# Altium integrated library NXP_60_26022015.IntLib: 1306 symbols (part 14 of 28)
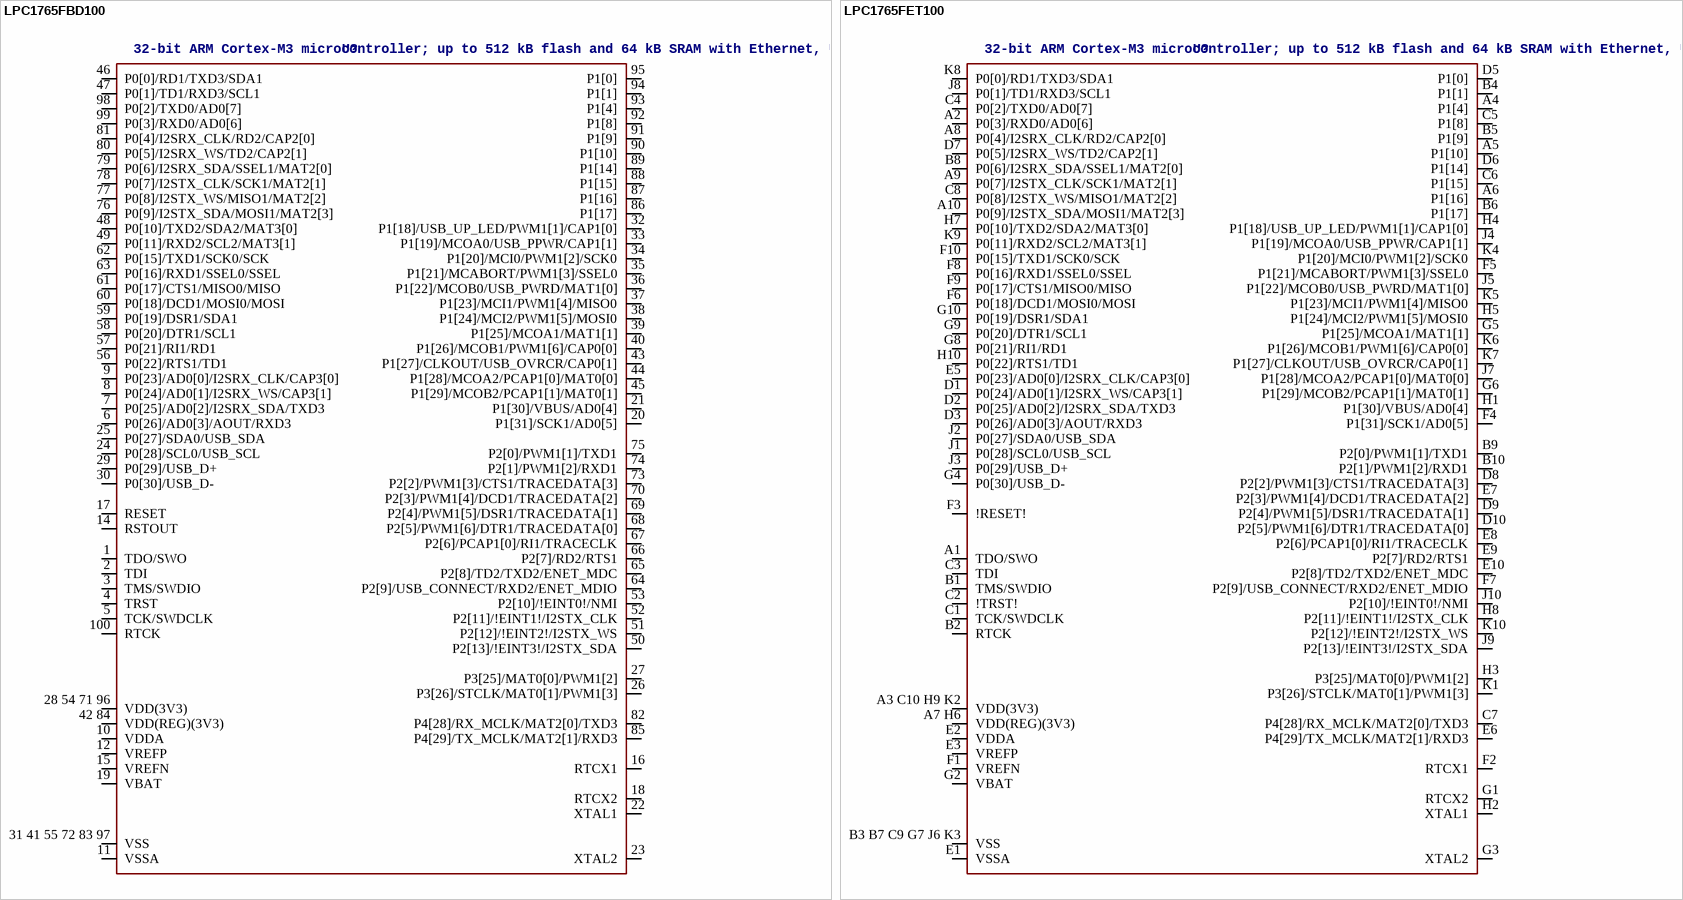
[diagram p198: symbols LPC1765FBD100 to LPC1765FET100]

## LPC1765FBD100
designator U?, comment 32-bit ARM Cortex-M3 microcontroller; up to 512 kB flash and 64 kB SRAM with Ethernet, USB 2.0 Host/Device/OTG, CAN The LPC1769/68/67/66/65/64/63 are ARM Cortex-M3 based microcontrollers for embedded applications featuring a high level of integration and low power consumption. The ARM Cortex-M3 is a next generation core that offers system enhancements such as enhanced debug features and a higher level of support block integration. The LPC1768/67/66/65/64/63 operate at CPU frequencies of up to 100 MHz. The LPC1769 operates at CPU frequencies of up to 120 MHz. The ARM Cortex-M3 CPU incorporates a 3-stage pipeline and uses a Harvard architecture with separate local instruction and data buses as well as a third bus for peripherals. The ARM Cortex-M3 CPU also includes an internal prefetch unit that supports speculative branching. The peripheral complement of the LPC1769/68/67/66/65/64/63 includes up to 512 kB of flash memory, up to 64 kB of data memory, Ethernet MAC, USB Device/Host/OTG interface, 8-channel general purpose DMA controller, 4 UARTs, 2 CAN channels, 2 SSP controllers, SPI interface, 3 I 2 C-bus interfaces, 2-input plus 2-output I 2 S-bus interface, 8-channel 12-bit ADC, 10-bit DAC, motor control PWM, Quadrature Encoder interface, four general purpose timers, 6-output general purpose PWM, ultra-low power Real-Time Clock (RTC) with separate battery supply, and up to 70 general purpose I/O pins. The LPC1769/68/67/66/65/64/63 are pin-compatible to the 100-pin LPC236x ARM7-based microcontroller series.   AAL Eindhoven MK/MVl
CAN: yes; ETH: no; FLASH: 256kB; MHZ: 100; SRAM: 32kB; SRAM0: 16kB; USB: D/H/OTG; DAC: yes; I2S: yes; SRAM1: 16kB
footprint SOT407-1
pins: 1 TDO/SWO, 2 TDI, 3 TMS/SWDIO, 4 TRST, 5 TCK/SWDCLK, 6 P0[26]/AD0[3]/AOUT/RXD3, 7 P0[25]/AD0[2]/I2SRX_SDA/TXD3, 8 P0[24]/AD0[1]/I2SRX_WS/CAP3[1], 9 P0[23]/AD0[0]/I2SRX_CLK/CAP3[0], 10 VDDA, 11 VSSA, 12 VREFP, 14 RSTOUT, 15 VREFN, 16 RTCX1, 17 RESET, 18 RTCX2, 19 VBAT, 20 P1[31]/SCK1/AD0[5], 21 P1[30]/VBUS/AD0[4], 22 XTAL1, 23 XTAL2, 24 P0[28]/SCL0/USB_SCL, 25 P0[27]/SDA0/USB_SDA, 26 P3[26]/STCLK/MAT0[1]/PWM1[3], 27 P3[25]/MAT0[0]/PWM1[2], 28 54 71 96 VDD(3V3), 29 P0[29]/USB_D+, 30 P0[30]/USB_D-, 31 41 55 72 83 97 VSS, 32 P1[18]/USB_UP_LED/PWM1[1]/CAP1[0], 33 P1[19]/MCOA0/USB_PPWR/CAP1[1], 34 P1[20]/MCI0/PWM1[2]/SCK0, 35 P1[21]/MCABORT/PWM1[3]/SSEL0, 36 P1[22]/MCOB0/USB_PWRD/MAT1[0], 37 P1[23]/MCI1/PWM1[4]/MISO0, 38 P1[24]/MCI2/PWM1[5]/MOSI0, 39 P1[25]/MCOA1/MAT1[1], 40 P1[26]/MCOB1/PWM1[6]/CAP0[0], 42 84 VDD(REG)(3V3), 43 P1[27]/CLKOUT/USB_OVRCR/CAP0[1], 44 P1[28]/MCOA2/PCAP1[0]/MAT0[0], 45 P1[29]/MCOB2/PCAP1[1]/MAT0[1], 46 P0[0]/RD1/TXD3/SDA1, 47 P0[1]/TD1/RXD3/SCL1, 48 P0[10]/TXD2/SDA2/MAT3[0], 49 P0[11]/RXD2/SCL2/MAT3[1], 50 P2[13]/!EINT3!/I2STX_SDA, 51 P2[12]/!EINT2!/I2STX_WS, 52 P2[11]/!EINT1!/I2STX_CLK, 53 P2[10]/!EINT0!/NMI, 56 P0[22]/RTS1/TD1, 57 P0[21]/RI1/RD1, 58 P0[20]/DTR1/SCL1, 59 P0[19]/DSR1/SDA1, 60 P0[18]/DCD1/MOSI0/MOSI, 61 P0[17]/CTS1/MISO0/MISO, 62 P0[15]/TXD1/SCK0/SCK, 63 P0[16]/RXD1/SSEL0/SSEL, 64 P2[9]/USB_CONNECT/RXD2/ENET_MDIO, 65 P2[8]/TD2/TXD2/ENET_MDC, 66 P2[7]/RD2/RTS1, 67 P2[6]/PCAP1[0]/RI1/TRACECLK, 68 P2[5]/PWM1[6]/DTR1/TRACEDATA[0], 69 P2[4]/PWM1[5]/DSR1/TRACEDATA[1], 70 P2[3]/PWM1[4]/DCD1/TRACEDATA[2], 73 P2[2]/PWM1[3]/CTS1/TRACEDATA[3], 74 P2[1]/PWM1[2]/RXD1, 75 P2[0]/PWM1[1]/TXD1, 76 P0[9]/I2STX_SDA/MOSI1/MAT2[3], 77 P0[8]/I2STX_WS/MISO1/MAT2[2], 78 P0[7]/I2STX_CLK/SCK1/MAT2[1], 79 P0[6]/I2SRX_SDA/SSEL1/MAT2[0], 80 P0[5]/I2SRX_WS/TD2/CAP2[1], 81 P0[4]/I2SRX_CLK/RD2/CAP2[0], 82 P4[28]/RX_MCLK/MAT2[0]/TXD3, 85 P4[29]/TX_MCLK/MAT2[1]/RXD3, 86 P1[17], 87 P1[16], 88 P1[15], 89 P1[14], 90 P1[10], 91 P1[9], 92 P1[8], 93 P1[4], 94 P1[1], 95 P1[0], 98 P0[2]/TXD0/AD0[7], 99 P0[3]/RXD0/AD0[6], 100 RTCK

## LPC1765FET100
designator U?, comment 32-bit ARM Cortex-M3 microcontroller; up to 512 kB flash and 64 kB SRAM with Ethernet, USB 2.0 Host/Device/OTG, CAN The LPC1769/68/67/66/65/64/63 are ARM Cortex-M3 based microcontrollers for embedded applications featuring a high level of integration and low power consumption. The ARM Cortex-M3 is a next generation core that offers system enhancements such as enhanced debug features and a higher level of support block integration. The LPC1768/67/66/65/64/63 operate at CPU frequencies of up to 100 MHz. The LPC1769 operates at CPU frequencies of up to 120 MHz. The ARM Cortex-M3 CPU incorporates a 3-stage pipeline and uses a Harvard architecture with separate local instruction and data buses as well as a third bus for peripherals. The ARM Cortex-M3 CPU also includes an internal prefetch unit that supports speculative branching. The peripheral complement of the LPC1769/68/67/66/65/64/63 includes up to 512 kB of flash memory, up to 64 kB of data memory, Ethernet MAC, USB Device/Host/OTG interface, 8-channel general purpose DMA controller, 4 UARTs, 2 CAN channels, 2 SSP controllers, SPI interface, 3 I 2 C-bus interfaces, 2-input plus 2-output I 2 S-bus interface, 8-channel 12-bit ADC, 10-bit DAC, motor control PWM, Quadrature Encoder interface, four general purpose timers, 6-output general purpose PWM, ultra-low power Real-Time Clock (RTC) with separate battery supply, and up to 70 general purpose I/O pins. The LPC1769/68/67/66/65/64/63 are pin-compatible to the 100-pin LPC236x ARM7-based microcontroller series.   AAL Eindhoven MK/MVl
CAN: yes; ETH: no; FLASH: 256kB; MHZ: 100; SRAM: 32kB; SRAM0: 16kB; USB: D/H/OTG; DAC: yes; I2S: yes; SRAM1: 16kB
footprint SOT926-1
pins: A1 TDO/SWO, A2 P0[3]/RXD0/AD0[6], A3 C10 H9 K2 VDD(3V3), A4 P1[4], A5 P1[10], A6 P1[16], A7 H6 VDD(REG)(3V3), A8 P0[4]/I2SRX_CLK/RD2/CAP2[0], A9 P0[7]/I2STX_CLK/SCK1/MAT2[1], A10 P0[9]/I2STX_SDA/MOSI1/MAT2[3], B1 TMS/SWDIO, B2 RTCK, B3 B7 C9 G7 J6 K3 VSS, B4 P1[1], B5 P1[9], B6 P1[17], B8 P0[6]/I2SRX_SDA/SSEL1/MAT2[0], B9 P2[0]/PWM1[1]/TXD1, B10 P2[1]/PWM1[2]/RXD1, C1 TCK/SWDCLK, C2 !TRST!, C3 TDI, C4 P0[2]/TXD0/AD0[7], C5 P1[8], C6 P1[15], C7 P4[28]/RX_MCLK/MAT2[0]/TXD3, C8 P0[8]/I2STX_WS/MISO1/MAT2[2], D1 P0[24]/AD0[1]/I2SRX_WS/CAP3[1], D2 P0[25]/AD0[2]/I2SRX_SDA/TXD3, D3 P0[26]/AD0[3]/AOUT/RXD3, D5 P1[0], D6 P1[14], D7 P0[5]/I2SRX_WS/TD2/CAP2[1], D8 P2[2]/PWM1[3]/CTS1/TRACEDATA[3], D9 P2[4]/PWM1[5]/DSR1/TRACEDATA[1], D10 P2[5]/PWM1[6]/DTR1/TRACEDATA[0], E1 VSSA, E2 VDDA, E3 VREFP, E5 P0[23]/AD0[0]/I2SRX_CLK/CAP3[0], E6 P4[29]/TX_MCLK/MAT2[1]/RXD3, E7 P2[3]/PWM1[4]/DCD1/TRACEDATA[2], E8 P2[6]/PCAP1[0]/RI1/TRACECLK, E9 P2[7]/RD2/RTS1, E10 P2[8]/TD2/TXD2/ENET_MDC, F1 VREFN, F2 RTCX1, F3 !RESET!, F4 P1[31]/SCK1/AD0[5], F5 P1[21]/MCABORT/PWM1[3]/SSEL0, F6 P0[18]/DCD1/MOSI0/MOSI, F7 P2[9]/USB_CONNECT/RXD2/ENET_MDIO, F8 P0[16]/RXD1/SSEL0/SSEL, F9 P0[17]/CTS1/MISO0/MISO, F10 P0[15]/TXD1/SCK0/SCK, G1 RTCX2, G2 VBAT, G3 XTAL2, G4 P0[30]/USB_D-, G5 P1[25]/MCOA1/MAT1[1], G6 P1[29]/MCOB2/PCAP1[1]/MAT0[1], G8 P0[21]/RI1/RD1, G9 P0[20]/DTR1/SCL1, G10 P0[19]/DSR1/SDA1, H1 P1[30]/VBUS/AD0[4], H2 XTAL1, H3 P3[25]/MAT0[0]/PWM1[2], H4 P1[18]/USB_UP_LED/PWM1[1]/CAP1[0], H5 P1[24]/MCI2/PWM1[5]/MOSI0, H7 P0[10]/TXD2/SDA2/MAT3[0], H8 P2[11]/!EINT1!/I2STX_CLK, H10 P0[22]/RTS1/TD1, J1 P0[28]/SCL0/USB_SCL, J2 P0[27]/SDA0/USB_SDA, J3 P0[29]/USB_D+, J4 P1[19]/MCOA0/USB_PPWR/CAP1[1], J5 P1[22]/MCOB0/USB_PWRD/MAT1[0], J7 P1[28]/MCOA2/PCAP1[0]/MAT0[0], J8 P0[1]/TD1/RXD3/SCL1, J9 P2[13]/!EINT3!/I2STX_SDA, J10 P2[10]/!EINT0!/NMI, K1 P3[26]/STCLK/MAT0[1]/PWM1[3], K4 P1[20]/MCI0/PWM1[2]/SCK0, K5 P1[23]/MCI1/PWM1[4]/MISO0, K6 P1[26]/MCOB1/PWM1[6]/CAP0[0], K7 P1[27]/CLKOUT/USB_OVRCR/CAP0[1], K8 P0[0]/RD1/TXD3/SDA1, K9 P0[11]/RXD2/SCL2/MAT3[1], K10 P2[12]/!EINT2!/I2STX_WS

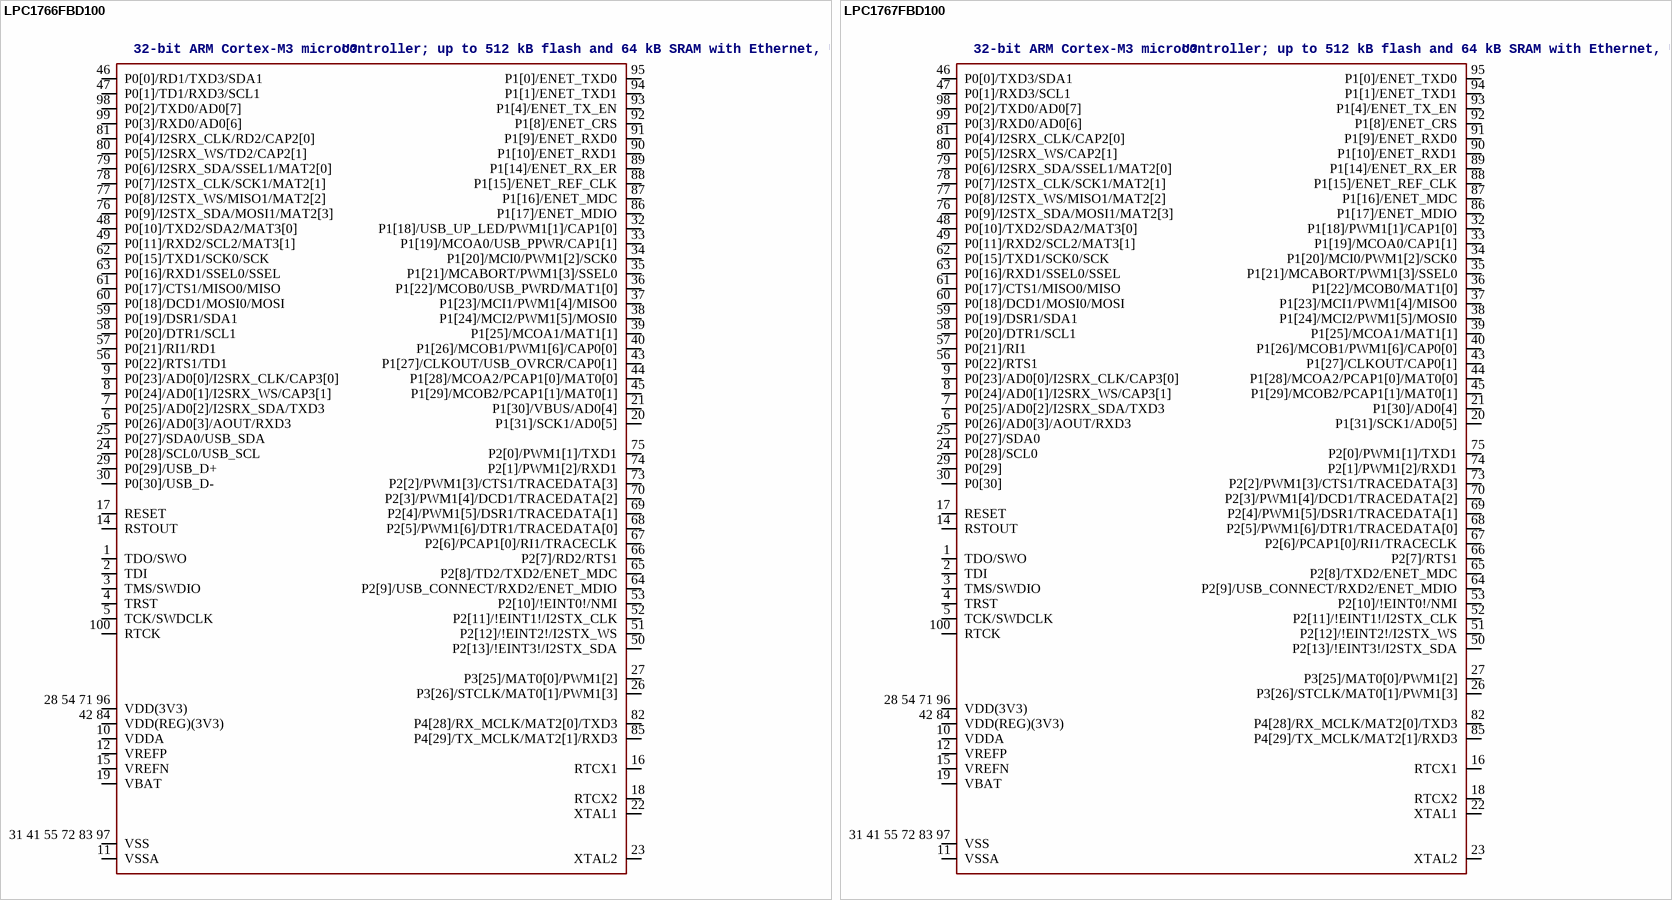
[diagram p83: symbols LPC1766FBD100 to LPC1767FBD100]

## LPC1766FBD100
designator U?, comment 32-bit ARM Cortex-M3 microcontroller; up to 512 kB flash and 64 kB SRAM with Ethernet, USB 2.0 Host/Device/OTG, CAN The LPC1769/68/67/66/65/64/63 are ARM Cortex-M3 based microcontrollers for embedded applications featuring a high level of integration and low power consumption. The ARM Cortex-M3 is a next generation core that offers system enhancements such as enhanced debug features and a higher level of support block integration. The LPC1768/67/66/65/64/63 operate at CPU frequencies of up to 100 MHz. The LPC1769 operates at CPU frequencies of up to 120 MHz. The ARM Cortex-M3 CPU incorporates a 3-stage pipeline and uses a Harvard architecture with separate local instruction and data buses as well as a third bus for peripherals. The ARM Cortex-M3 CPU also includes an internal prefetch unit that supports speculative branching. The peripheral complement of the LPC1769/68/67/66/65/64/63 includes up to 512 kB of flash memory, up to 64 kB of data memory, Ethernet MAC, USB Device/Host/OTG interface, 8-channel general purpose DMA controller, 4 UARTs, 2 CAN channels, 2 SSP controllers, SPI interface, 3 I 2 C-bus interfaces, 2-input plus 2-output I 2 S-bus interface, 8-channel 12-bit ADC, 10-bit DAC, motor control PWM, Quadrature Encoder interface, four general purpose timers, 6-output general purpose PWM, ultra-low power Real-Time Clock (RTC) with separate battery supply, and up to 70 general purpose I/O pins. The LPC1769/68/67/66/65/64/63 are pin-compatible to the 100-pin LPC236x ARM7-based microcontroller series.   AAL Eindhoven MK/MVl
CAN: yes; FLASH: 256kB; MHZ: 100; SRAM: 32kB; SRAM0: 16kB; USB: D/H/OTG; DAC: yes; ETH: yes; I2S: yes; SRAM1: 16kB
footprint SOT407-1
pins: 1 TDO/SWO, 2 TDI, 3 TMS/SWDIO, 4 TRST, 5 TCK/SWDCLK, 6 P0[26]/AD0[3]/AOUT/RXD3, 7 P0[25]/AD0[2]/I2SRX_SDA/TXD3, 8 P0[24]/AD0[1]/I2SRX_WS/CAP3[1], 9 P0[23]/AD0[0]/I2SRX_CLK/CAP3[0], 10 VDDA, 11 VSSA, 12 VREFP, 14 RSTOUT, 15 VREFN, 16 RTCX1, 17 RESET, 18 RTCX2, 19 VBAT, 20 P1[31]/SCK1/AD0[5], 21 P1[30]/VBUS/AD0[4], 22 XTAL1, 23 XTAL2, 24 P0[28]/SCL0/USB_SCL, 25 P0[27]/SDA0/USB_SDA, 26 P3[26]/STCLK/MAT0[1]/PWM1[3], 27 P3[25]/MAT0[0]/PWM1[2], 28 54 71 96 VDD(3V3), 29 P0[29]/USB_D+, 30 P0[30]/USB_D-, 31 41 55 72 83 97 VSS, 32 P1[18]/USB_UP_LED/PWM1[1]/CAP1[0], 33 P1[19]/MCOA0/USB_PPWR/CAP1[1], 34 P1[20]/MCI0/PWM1[2]/SCK0, 35 P1[21]/MCABORT/PWM1[3]/SSEL0, 36 P1[22]/MCOB0/USB_PWRD/MAT1[0], 37 P1[23]/MCI1/PWM1[4]/MISO0, 38 P1[24]/MCI2/PWM1[5]/MOSI0, 39 P1[25]/MCOA1/MAT1[1], 40 P1[26]/MCOB1/PWM1[6]/CAP0[0], 42 84 VDD(REG)(3V3), 43 P1[27]/CLKOUT/USB_OVRCR/CAP0[1], 44 P1[28]/MCOA2/PCAP1[0]/MAT0[0], 45 P1[29]/MCOB2/PCAP1[1]/MAT0[1], 46 P0[0]/RD1/TXD3/SDA1, 47 P0[1]/TD1/RXD3/SCL1, 48 P0[10]/TXD2/SDA2/MAT3[0], 49 P0[11]/RXD2/SCL2/MAT3[1], 50 P2[13]/!EINT3!/I2STX_SDA, 51 P2[12]/!EINT2!/I2STX_WS, 52 P2[11]/!EINT1!/I2STX_CLK, 53 P2[10]/!EINT0!/NMI, 56 P0[22]/RTS1/TD1, 57 P0[21]/RI1/RD1, 58 P0[20]/DTR1/SCL1, 59 P0[19]/DSR1/SDA1, 60 P0[18]/DCD1/MOSI0/MOSI, 61 P0[17]/CTS1/MISO0/MISO, 62 P0[15]/TXD1/SCK0/SCK, 63 P0[16]/RXD1/SSEL0/SSEL, 64 P2[9]/USB_CONNECT/RXD2/ENET_MDIO, 65 P2[8]/TD2/TXD2/ENET_MDC, 66 P2[7]/RD2/RTS1, 67 P2[6]/PCAP1[0]/RI1/TRACECLK, 68 P2[5]/PWM1[6]/DTR1/TRACEDATA[0], 69 P2[4]/PWM1[5]/DSR1/TRACEDATA[1], 70 P2[3]/PWM1[4]/DCD1/TRACEDATA[2], 73 P2[2]/PWM1[3]/CTS1/TRACEDATA[3], 74 P2[1]/PWM1[2]/RXD1, 75 P2[0]/PWM1[1]/TXD1, 76 P0[9]/I2STX_SDA/MOSI1/MAT2[3], 77 P0[8]/I2STX_WS/MISO1/MAT2[2], 78 P0[7]/I2STX_CLK/SCK1/MAT2[1], 79 P0[6]/I2SRX_SDA/SSEL1/MAT2[0], 80 P0[5]/I2SRX_WS/TD2/CAP2[1], 81 P0[4]/I2SRX_CLK/RD2/CAP2[0], 82 P4[28]/RX_MCLK/MAT2[0]/TXD3, 85 P4[29]/TX_MCLK/MAT2[1]/RXD3, 86 P1[17]/ENET_MDIO, 87 P1[16]/ENET_MDC, 88 P1[15]/ENET_REF_CLK, 89 P1[14]/ENET_RX_ER, 90 P1[10]/ENET_RXD1, 91 P1[9]/ENET_RXD0, 92 P1[8]/ENET_CRS, 93 P1[4]/ENET_TX_EN, 94 P1[1]/ENET_TXD1, 95 P1[0]/ENET_TXD0, 98 P0[2]/TXD0/AD0[7], 99 P0[3]/RXD0/AD0[6], 100 RTCK

## LPC1767FBD100
designator U?, comment 32-bit ARM Cortex-M3 microcontroller; up to 512 kB flash and 64 kB SRAM with Ethernet, USB 2.0 Host/Device/OTG, CAN The LPC1769/68/67/66/65/64/63 are ARM Cortex-M3 based microcontrollers for embedded applications featuring a high level of integration and low power consumption. The ARM Cortex-M3 is a next generation core that offers system enhancements such as enhanced debug features and a higher level of support block integration. The LPC1768/67/66/65/64/63 operate at CPU frequencies of up to 100 MHz. The LPC1769 operates at CPU frequencies of up to 120 MHz. The ARM Cortex-M3 CPU incorporates a 3-stage pipeline and uses a Harvard architecture with separate local instruction and data buses as well as a third bus for peripherals. The ARM Cortex-M3 CPU also includes an internal prefetch unit that supports speculative branching. The peripheral complement of the LPC1769/68/67/66/65/64/63 includes up to 512 kB of flash memory, up to 64 kB of data memory, Ethernet MAC, USB Device/Host/OTG interface, 8-channel general purpose DMA controller, 4 UARTs, 2 CAN channels, 2 SSP controllers, SPI interface, 3 I 2 C-bus interfaces, 2-input plus 2-output I 2 S-bus interface, 8-channel 12-bit ADC, 10-bit DAC, motor control PWM, Quadrature Encoder interface, four general purpose timers, 6-output general purpose PWM, ultra-low power Real-Time Clock (RTC) with separate battery supply, and up to 70 general purpose I/O pins. The LPC1769/68/67/66/65/64/63 are pin-compatible to the 100-pin LPC236x ARM7-based microcontroller series.   AAL Eindhoven MK/MVl
CAN: no; DAC: yes; FLASH: 512kB; MHZ: 100; SRAM: 32kB; SRAM0: 16kB; ETH: yes; I2S: yes; SRAM1: 16kB; USB: no
footprint SOT407-1
pins: 1 TDO/SWO, 2 TDI, 3 TMS/SWDIO, 4 TRST, 5 TCK/SWDCLK, 6 P0[26]/AD0[3]/AOUT/RXD3, 7 P0[25]/AD0[2]/I2SRX_SDA/TXD3, 8 P0[24]/AD0[1]/I2SRX_WS/CAP3[1], 9 P0[23]/AD0[0]/I2SRX_CLK/CAP3[0], 10 VDDA, 11 VSSA, 12 VREFP, 14 RSTOUT, 15 VREFN, 16 RTCX1, 17 RESET, 18 RTCX2, 19 VBAT, 20 P1[31]/SCK1/AD0[5], 21 P1[30]/AD0[4], 22 XTAL1, 23 XTAL2, 24 P0[28]/SCL0, 25 P0[27]/SDA0, 26 P3[26]/STCLK/MAT0[1]/PWM1[3], 27 P3[25]/MAT0[0]/PWM1[2], 28 54 71 96 VDD(3V3), 29 P0[29], 30 P0[30], 31 41 55 72 83 97 VSS, 32 P1[18]/PWM1[1]/CAP1[0], 33 P1[19]/MCOA0/CAP1[1], 34 P1[20]/MCI0/PWM1[2]/SCK0, 35 P1[21]/MCABORT/PWM1[3]/SSEL0, 36 P1[22]/MCOB0/MAT1[0], 37 P1[23]/MCI1/PWM1[4]/MISO0, 38 P1[24]/MCI2/PWM1[5]/MOSI0, 39 P1[25]/MCOA1/MAT1[1], 40 P1[26]/MCOB1/PWM1[6]/CAP0[0], 42 84 VDD(REG)(3V3), 43 P1[27]/CLKOUT/CAP0[1], 44 P1[28]/MCOA2/PCAP1[0]/MAT0[0], 45 P1[29]/MCOB2/PCAP1[1]/MAT0[1], 46 P0[0]/TXD3/SDA1, 47 P0[1]/RXD3/SCL1, 48 P0[10]/TXD2/SDA2/MAT3[0], 49 P0[11]/RXD2/SCL2/MAT3[1], 50 P2[13]/!EINT3!/I2STX_SDA, 51 P2[12]/!EINT2!/I2STX_WS, 52 P2[11]/!EINT1!/I2STX_CLK, 53 P2[10]/!EINT0!/NMI, 56 P0[22]/RTS1, 57 P0[21]/RI1, 58 P0[20]/DTR1/SCL1, 59 P0[19]/DSR1/SDA1, 60 P0[18]/DCD1/MOSI0/MOSI, 61 P0[17]/CTS1/MISO0/MISO, 62 P0[15]/TXD1/SCK0/SCK, 63 P0[16]/RXD1/SSEL0/SSEL, 64 P2[9]/USB_CONNECT/RXD2/ENET_MDIO, 65 P2[8]/TXD2/ENET_MDC, 66 P2[7]/RTS1, 67 P2[6]/PCAP1[0]/RI1/TRACECLK, 68 P2[5]/PWM1[6]/DTR1/TRACEDATA[0], 69 P2[4]/PWM1[5]/DSR1/TRACEDATA[1], 70 P2[3]/PWM1[4]/DCD1/TRACEDATA[2], 73 P2[2]/PWM1[3]/CTS1/TRACEDATA[3], 74 P2[1]/PWM1[2]/RXD1, 75 P2[0]/PWM1[1]/TXD1, 76 P0[9]/I2STX_SDA/MOSI1/MAT2[3], 77 P0[8]/I2STX_WS/MISO1/MAT2[2], 78 P0[7]/I2STX_CLK/SCK1/MAT2[1], 79 P0[6]/I2SRX_SDA/SSEL1/MAT2[0], 80 P0[5]/I2SRX_WS/CAP2[1], 81 P0[4]/I2SRX_CLK/CAP2[0], 82 P4[28]/RX_MCLK/MAT2[0]/TXD3, 85 P4[29]/TX_MCLK/MAT2[1]/RXD3, 86 P1[17]/ENET_MDIO, 87 P1[16]/ENET_MDC, 88 P1[15]/ENET_REF_CLK, 89 P1[14]/ENET_RX_ER, 90 P1[10]/ENET_RXD1, 91 P1[9]/ENET_RXD0, 92 P1[8]/ENET_CRS, 93 P1[4]/ENET_TX_EN, 94 P1[1]/ENET_TXD1, 95 P1[0]/ENET_TXD0, 98 P0[2]/TXD0/AD0[7], 99 P0[3]/RXD0/AD0[6], 100 RTCK

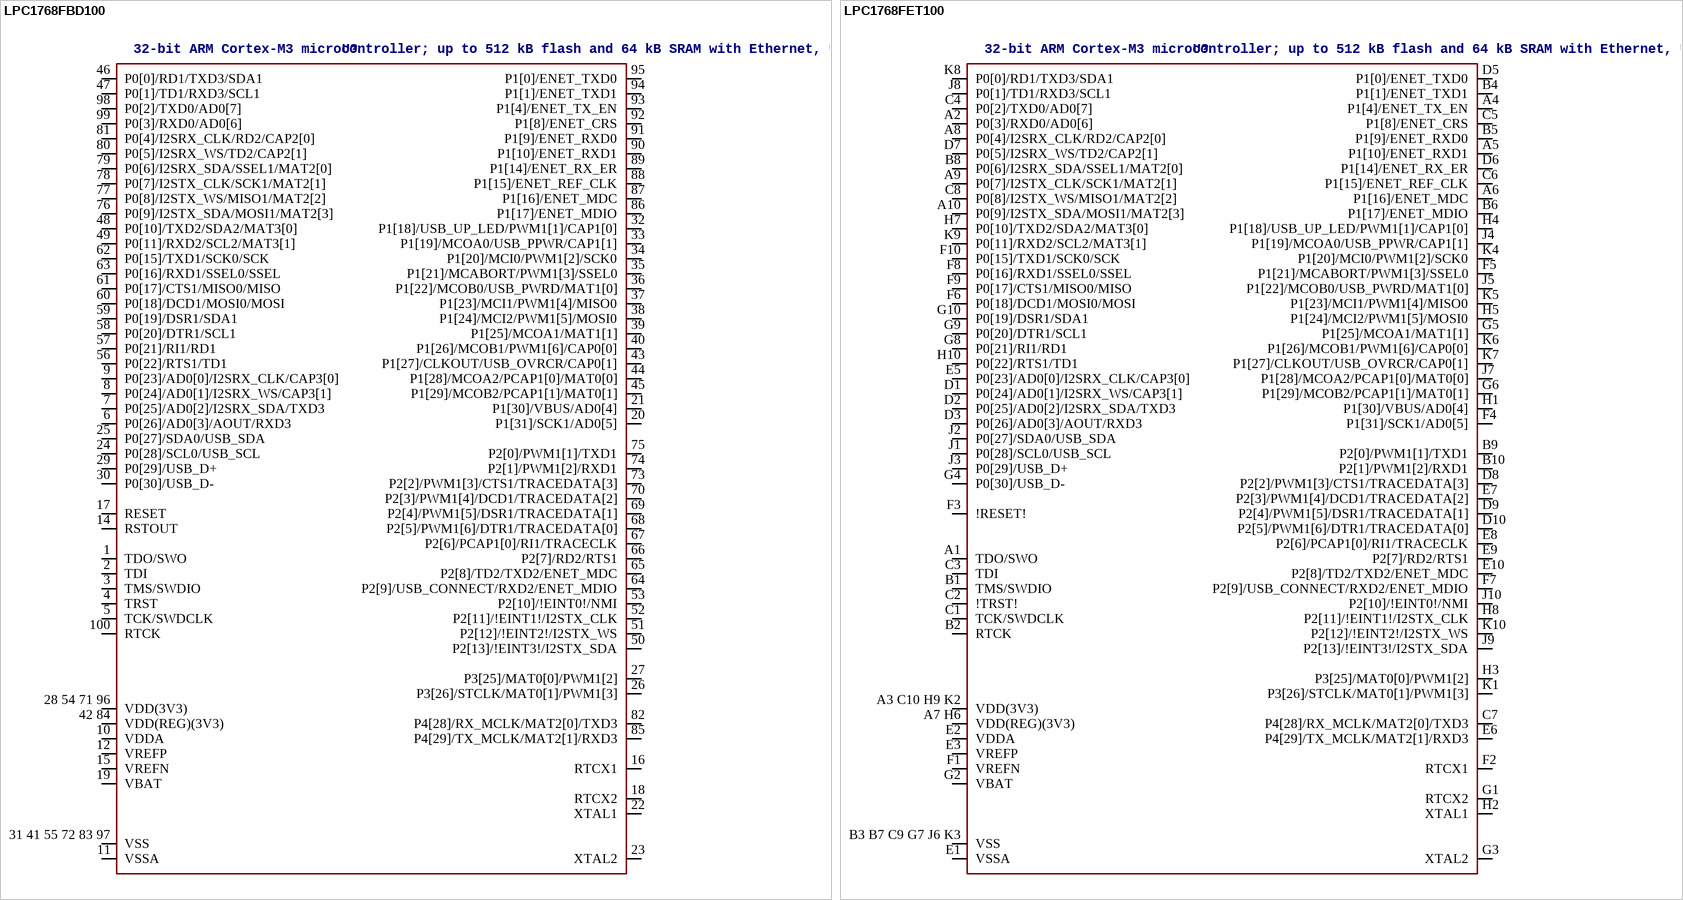
[diagram p84: symbols LPC1768FBD100 to LPC1768FET100]

## LPC1768FBD100
designator U?, comment 32-bit ARM Cortex-M3 microcontroller; up to 512 kB flash and 64 kB SRAM with Ethernet, USB 2.0 Host/Device/OTG, CAN The LPC1769/68/67/66/65/64/63 are ARM Cortex-M3 based microcontrollers for embedded applications featuring a high level of integration and low power consumption. The ARM Cortex-M3 is a next generation core that offers system enhancements such as enhanced debug features and a higher level of support block integration. The LPC1768/67/66/65/64/63 operate at CPU frequencies of up to 100 MHz. The LPC1769 operates at CPU frequencies of up to 120 MHz. The ARM Cortex-M3 CPU incorporates a 3-stage pipeline and uses a Harvard architecture with separate local instruction and data buses as well as a third bus for peripherals. The ARM Cortex-M3 CPU also includes an internal prefetch unit that supports speculative branching. The peripheral complement of the LPC1769/68/67/66/65/64/63 includes up to 512 kB of flash memory, up to 64 kB of data memory, Ethernet MAC, USB Device/Host/OTG interface, 8-channel general purpose DMA controller, 4 UARTs, 2 CAN channels, 2 SSP controllers, SPI interface, 3 I 2 C-bus interfaces, 2-input plus 2-output I 2 S-bus interface, 8-channel 12-bit ADC, 10-bit DAC, motor control PWM, Quadrature Encoder interface, four general purpose timers, 6-output general purpose PWM, ultra-low power Real-Time Clock (RTC) with separate battery supply, and up to 70 general purpose I/O pins. The LPC1769/68/67/66/65/64/63 are pin-compatible to the 100-pin LPC236x ARM7-based microcontroller series.   AAL Eindhoven MK/MVl
CAN: yes; FLASH: 512kB; MHZ: 100; SRAM: 32kB; SRAM0: 16kB; USB: D/H/OTG; DAC: yes; ETH: yes; I2S: yes; SRAM1: 16kB
footprint SOT407-1
pins: 1 TDO/SWO, 2 TDI, 3 TMS/SWDIO, 4 TRST, 5 TCK/SWDCLK, 6 P0[26]/AD0[3]/AOUT/RXD3, 7 P0[25]/AD0[2]/I2SRX_SDA/TXD3, 8 P0[24]/AD0[1]/I2SRX_WS/CAP3[1], 9 P0[23]/AD0[0]/I2SRX_CLK/CAP3[0], 10 VDDA, 11 VSSA, 12 VREFP, 14 RSTOUT, 15 VREFN, 16 RTCX1, 17 RESET, 18 RTCX2, 19 VBAT, 20 P1[31]/SCK1/AD0[5], 21 P1[30]/VBUS/AD0[4], 22 XTAL1, 23 XTAL2, 24 P0[28]/SCL0/USB_SCL, 25 P0[27]/SDA0/USB_SDA, 26 P3[26]/STCLK/MAT0[1]/PWM1[3], 27 P3[25]/MAT0[0]/PWM1[2], 28 54 71 96 VDD(3V3), 29 P0[29]/USB_D+, 30 P0[30]/USB_D-, 31 41 55 72 83 97 VSS, 32 P1[18]/USB_UP_LED/PWM1[1]/CAP1[0], 33 P1[19]/MCOA0/USB_PPWR/CAP1[1], 34 P1[20]/MCI0/PWM1[2]/SCK0, 35 P1[21]/MCABORT/PWM1[3]/SSEL0, 36 P1[22]/MCOB0/USB_PWRD/MAT1[0], 37 P1[23]/MCI1/PWM1[4]/MISO0, 38 P1[24]/MCI2/PWM1[5]/MOSI0, 39 P1[25]/MCOA1/MAT1[1], 40 P1[26]/MCOB1/PWM1[6]/CAP0[0], 42 84 VDD(REG)(3V3), 43 P1[27]/CLKOUT/USB_OVRCR/CAP0[1], 44 P1[28]/MCOA2/PCAP1[0]/MAT0[0], 45 P1[29]/MCOB2/PCAP1[1]/MAT0[1], 46 P0[0]/RD1/TXD3/SDA1, 47 P0[1]/TD1/RXD3/SCL1, 48 P0[10]/TXD2/SDA2/MAT3[0], 49 P0[11]/RXD2/SCL2/MAT3[1], 50 P2[13]/!EINT3!/I2STX_SDA, 51 P2[12]/!EINT2!/I2STX_WS, 52 P2[11]/!EINT1!/I2STX_CLK, 53 P2[10]/!EINT0!/NMI, 56 P0[22]/RTS1/TD1, 57 P0[21]/RI1/RD1, 58 P0[20]/DTR1/SCL1, 59 P0[19]/DSR1/SDA1, 60 P0[18]/DCD1/MOSI0/MOSI, 61 P0[17]/CTS1/MISO0/MISO, 62 P0[15]/TXD1/SCK0/SCK, 63 P0[16]/RXD1/SSEL0/SSEL, 64 P2[9]/USB_CONNECT/RXD2/ENET_MDIO, 65 P2[8]/TD2/TXD2/ENET_MDC, 66 P2[7]/RD2/RTS1, 67 P2[6]/PCAP1[0]/RI1/TRACECLK, 68 P2[5]/PWM1[6]/DTR1/TRACEDATA[0], 69 P2[4]/PWM1[5]/DSR1/TRACEDATA[1], 70 P2[3]/PWM1[4]/DCD1/TRACEDATA[2], 73 P2[2]/PWM1[3]/CTS1/TRACEDATA[3], 74 P2[1]/PWM1[2]/RXD1, 75 P2[0]/PWM1[1]/TXD1, 76 P0[9]/I2STX_SDA/MOSI1/MAT2[3], 77 P0[8]/I2STX_WS/MISO1/MAT2[2], 78 P0[7]/I2STX_CLK/SCK1/MAT2[1], 79 P0[6]/I2SRX_SDA/SSEL1/MAT2[0], 80 P0[5]/I2SRX_WS/TD2/CAP2[1], 81 P0[4]/I2SRX_CLK/RD2/CAP2[0], 82 P4[28]/RX_MCLK/MAT2[0]/TXD3, 85 P4[29]/TX_MCLK/MAT2[1]/RXD3, 86 P1[17]/ENET_MDIO, 87 P1[16]/ENET_MDC, 88 P1[15]/ENET_REF_CLK, 89 P1[14]/ENET_RX_ER, 90 P1[10]/ENET_RXD1, 91 P1[9]/ENET_RXD0, 92 P1[8]/ENET_CRS, 93 P1[4]/ENET_TX_EN, 94 P1[1]/ENET_TXD1, 95 P1[0]/ENET_TXD0, 98 P0[2]/TXD0/AD0[7], 99 P0[3]/RXD0/AD0[6], 100 RTCK

## LPC1768FET100
designator U?, comment 32-bit ARM Cortex-M3 microcontroller; up to 512 kB flash and 64 kB SRAM with Ethernet, USB 2.0 Host/Device/OTG, CAN The LPC1769/68/67/66/65/64/63 are ARM Cortex-M3 based microcontrollers for embedded applications featuring a high level of integration and low power consumption. The ARM Cortex-M3 is a next generation core that offers system enhancements such as enhanced debug features and a higher level of support block integration. The LPC1768/67/66/65/64/63 operate at CPU frequencies of up to 100 MHz. The LPC1769 operates at CPU frequencies of up to 120 MHz. The ARM Cortex-M3 CPU incorporates a 3-stage pipeline and uses a Harvard architecture with separate local instruction and data buses as well as a third bus for peripherals. The ARM Cortex-M3 CPU also includes an internal prefetch unit that supports speculative branching. The peripheral complement of the LPC1769/68/67/66/65/64/63 includes up to 512 kB of flash memory, up to 64 kB of data memory, Ethernet MAC, USB Device/Host/OTG interface, 8-channel general purpose DMA controller, 4 UARTs, 2 CAN channels, 2 SSP controllers, SPI interface, 3 I 2 C-bus interfaces, 2-input plus 2-output I 2 S-bus interface, 8-channel 12-bit ADC, 10-bit DAC, motor control PWM, Quadrature Encoder interface, four general purpose timers, 6-output general purpose PWM, ultra-low power Real-Time Clock (RTC) with separate battery supply, and up to 70 general purpose I/O pins. The LPC1769/68/67/66/65/64/63 are pin-compatible to the 100-pin LPC236x ARM7-based microcontroller series.   AAL Eindhoven MK/MVl
CAN: yes; FLASH: 512kB; MHZ: 100; SRAM: 32kB; SRAM0: 16kB; USB: D/H/OTG; DAC: yes; ETH: yes; I2S: yes; SRAM1: 16kB
footprint SOT926-1
pins: A1 TDO/SWO, A2 P0[3]/RXD0/AD0[6], A3 C10 H9 K2 VDD(3V3), A4 P1[4]/ENET_TX_EN, A5 P1[10]/ENET_RXD1, A6 P1[16]/ENET_MDC, A7 H6 VDD(REG)(3V3), A8 P0[4]/I2SRX_CLK/RD2/CAP2[0], A9 P0[7]/I2STX_CLK/SCK1/MAT2[1], A10 P0[9]/I2STX_SDA/MOSI1/MAT2[3], B1 TMS/SWDIO, B2 RTCK, B3 B7 C9 G7 J6 K3 VSS, B4 P1[1]/ENET_TXD1, B5 P1[9]/ENET_RXD0, B6 P1[17]/ENET_MDIO, B8 P0[6]/I2SRX_SDA/SSEL1/MAT2[0], B9 P2[0]/PWM1[1]/TXD1, B10 P2[1]/PWM1[2]/RXD1, C1 TCK/SWDCLK, C2 !TRST!, C3 TDI, C4 P0[2]/TXD0/AD0[7], C5 P1[8]/ENET_CRS, C6 P1[15]/ENET_REF_CLK, C7 P4[28]/RX_MCLK/MAT2[0]/TXD3, C8 P0[8]/I2STX_WS/MISO1/MAT2[2], D1 P0[24]/AD0[1]/I2SRX_WS/CAP3[1], D2 P0[25]/AD0[2]/I2SRX_SDA/TXD3, D3 P0[26]/AD0[3]/AOUT/RXD3, D5 P1[0]/ENET_TXD0, D6 P1[14]/ENET_RX_ER, D7 P0[5]/I2SRX_WS/TD2/CAP2[1], D8 P2[2]/PWM1[3]/CTS1/TRACEDATA[3], D9 P2[4]/PWM1[5]/DSR1/TRACEDATA[1], D10 P2[5]/PWM1[6]/DTR1/TRACEDATA[0], E1 VSSA, E2 VDDA, E3 VREFP, E5 P0[23]/AD0[0]/I2SRX_CLK/CAP3[0], E6 P4[29]/TX_MCLK/MAT2[1]/RXD3, E7 P2[3]/PWM1[4]/DCD1/TRACEDATA[2], E8 P2[6]/PCAP1[0]/RI1/TRACECLK, E9 P2[7]/RD2/RTS1, E10 P2[8]/TD2/TXD2/ENET_MDC, F1 VREFN, F2 RTCX1, F3 !RESET!, F4 P1[31]/SCK1/AD0[5], F5 P1[21]/MCABORT/PWM1[3]/SSEL0, F6 P0[18]/DCD1/MOSI0/MOSI, F7 P2[9]/USB_CONNECT/RXD2/ENET_MDIO, F8 P0[16]/RXD1/SSEL0/SSEL, F9 P0[17]/CTS1/MISO0/MISO, F10 P0[15]/TXD1/SCK0/SCK, G1 RTCX2, G2 VBAT, G3 XTAL2, G4 P0[30]/USB_D-, G5 P1[25]/MCOA1/MAT1[1], G6 P1[29]/MCOB2/PCAP1[1]/MAT0[1], G8 P0[21]/RI1/RD1, G9 P0[20]/DTR1/SCL1, G10 P0[19]/DSR1/SDA1, H1 P1[30]/VBUS/AD0[4], H2 XTAL1, H3 P3[25]/MAT0[0]/PWM1[2], H4 P1[18]/USB_UP_LED/PWM1[1]/CAP1[0], H5 P1[24]/MCI2/PWM1[5]/MOSI0, H7 P0[10]/TXD2/SDA2/MAT3[0], H8 P2[11]/!EINT1!/I2STX_CLK, H10 P0[22]/RTS1/TD1, J1 P0[28]/SCL0/USB_SCL, J2 P0[27]/SDA0/USB_SDA, J3 P0[29]/USB_D+, J4 P1[19]/MCOA0/USB_PPWR/CAP1[1], J5 P1[22]/MCOB0/USB_PWRD/MAT1[0], J7 P1[28]/MCOA2/PCAP1[0]/MAT0[0], J8 P0[1]/TD1/RXD3/SCL1, J9 P2[13]/!EINT3!/I2STX_SDA, J10 P2[10]/!EINT0!/NMI, K1 P3[26]/STCLK/MAT0[1]/PWM1[3], K4 P1[20]/MCI0/PWM1[2]/SCK0, K5 P1[23]/MCI1/PWM1[4]/MISO0, K6 P1[26]/MCOB1/PWM1[6]/CAP0[0], K7 P1[27]/CLKOUT/USB_OVRCR/CAP0[1], K8 P0[0]/RD1/TXD3/SDA1, K9 P0[11]/RXD2/SCL2/MAT3[1], K10 P2[12]/!EINT2!/I2STX_WS

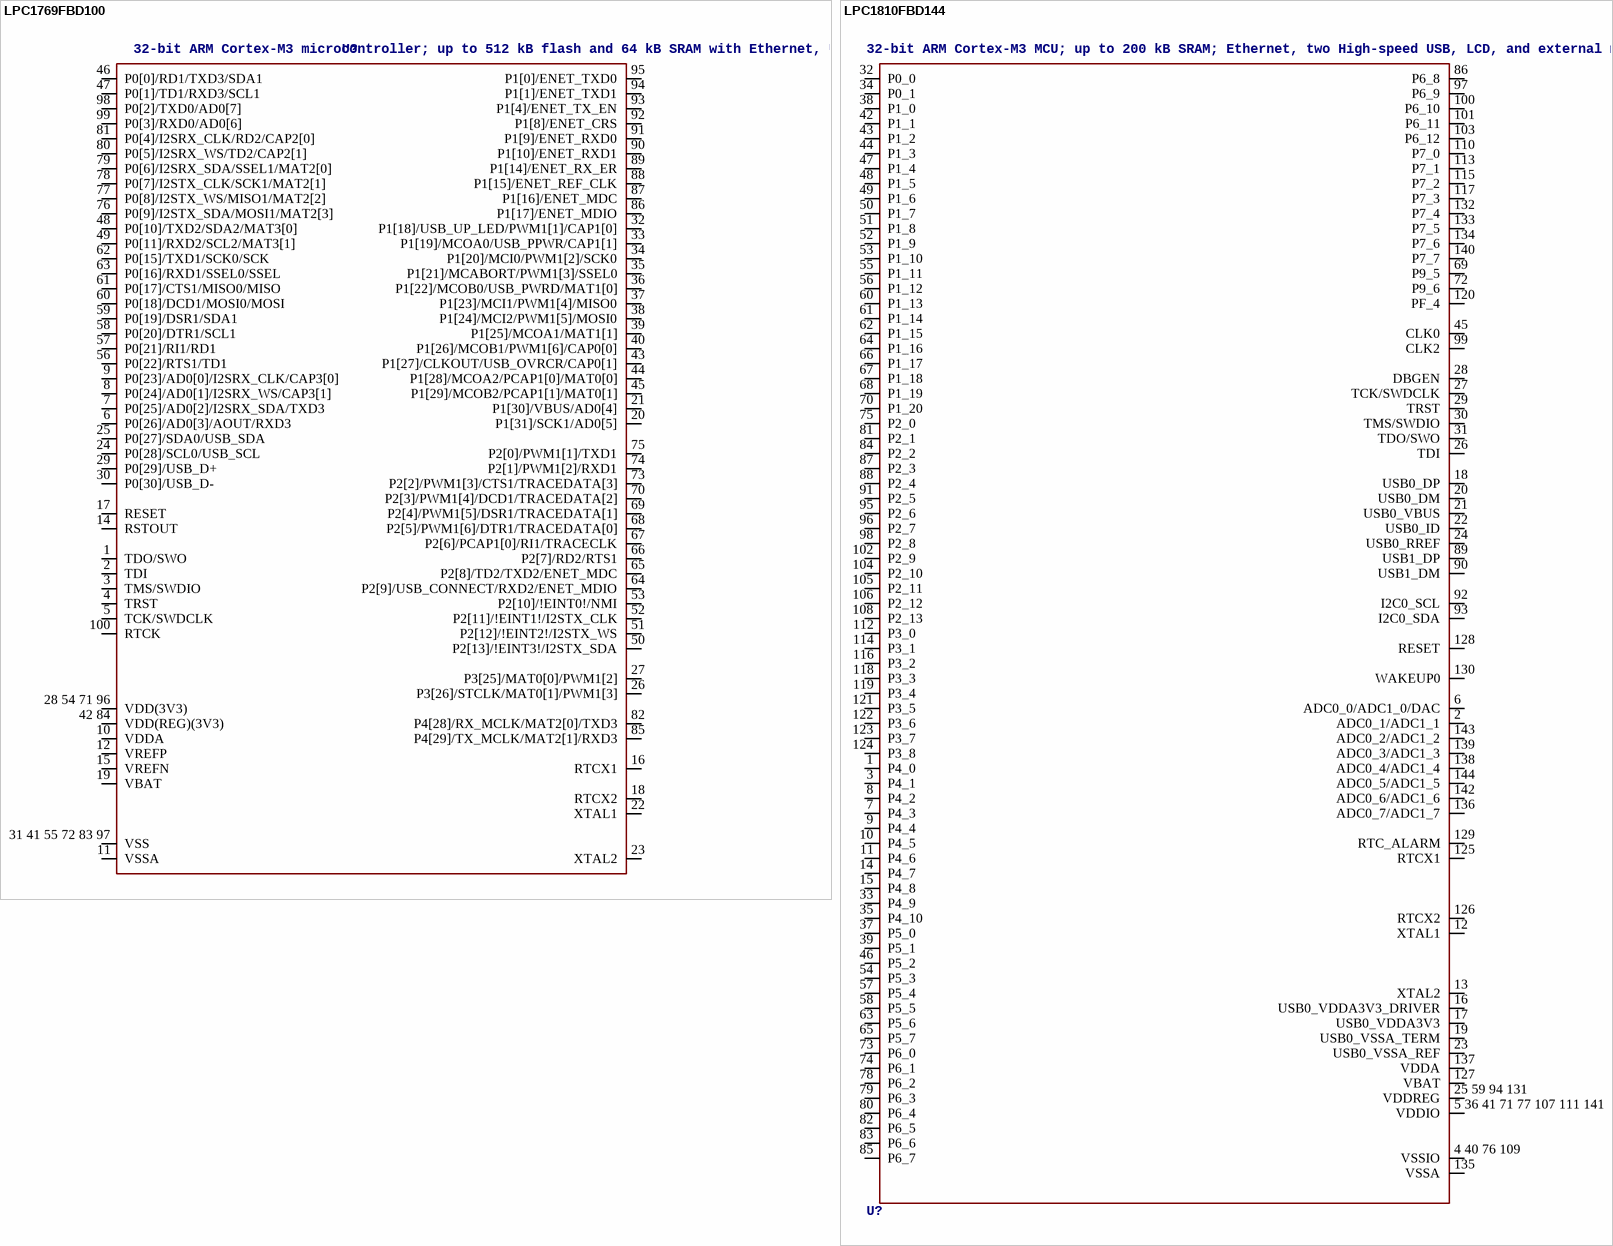
[diagram p85: symbols LPC1769FBD100 to LPC1810FBD144]

## LPC1769FBD100
designator U?, comment 32-bit ARM Cortex-M3 microcontroller; up to 512 kB flash and 64 kB SRAM with Ethernet, USB 2.0 Host/Device/OTG, CAN The LPC1769/68/67/66/65/64/63 are ARM Cortex-M3 based microcontrollers for embedded applications featuring a high level of integration and low power consumption. The ARM Cortex-M3 is a next generation core that offers system enhancements such as enhanced debug features and a higher level of support block integration. The LPC1768/67/66/65/64/63 operate at CPU frequencies of up to 100 MHz. The LPC1769 operates at CPU frequencies of up to 120 MHz. The ARM Cortex-M3 CPU incorporates a 3-stage pipeline and uses a Harvard architecture with separate local instruction and data buses as well as a third bus for peripherals. The ARM Cortex-M3 CPU also includes an internal prefetch unit that supports speculative branching. The peripheral complement of the LPC1769/68/67/66/65/64/63 includes up to 512 kB of flash memory, up to 64 kB of data memory, Ethernet MAC, USB Device/Host/OTG interface, 8-channel general purpose DMA controller, 4 UARTs, 2 CAN channels, 2 SSP controllers, SPI interface, 3 I 2 C-bus interfaces, 2-input plus 2-output I 2 S-bus interface, 8-channel 12-bit ADC, 10-bit DAC, motor control PWM, Quadrature Encoder interface, four general purpose timers, 6-output general purpose PWM, ultra-low power Real-Time Clock (RTC) with separate battery supply, and up to 70 general purpose I/O pins. The LPC1769/68/67/66/65/64/63 are pin-compatible to the 100-pin LPC236x ARM7-based microcontroller series.   AAL Eindhoven MK/MVl
CAN: yes; FLASH: 512kB; MHZ: 120; SRAM: 32kB; SRAM0: 16kB; USB: D/H/OTG; DAC: yes; ETH: yes; I2S: yes; SRAM1: 16kB
footprint SOT407-1
pins: 1 TDO/SWO, 2 TDI, 3 TMS/SWDIO, 4 TRST, 5 TCK/SWDCLK, 6 P0[26]/AD0[3]/AOUT/RXD3, 7 P0[25]/AD0[2]/I2SRX_SDA/TXD3, 8 P0[24]/AD0[1]/I2SRX_WS/CAP3[1], 9 P0[23]/AD0[0]/I2SRX_CLK/CAP3[0], 10 VDDA, 11 VSSA, 12 VREFP, 14 RSTOUT, 15 VREFN, 16 RTCX1, 17 RESET, 18 RTCX2, 19 VBAT, 20 P1[31]/SCK1/AD0[5], 21 P1[30]/VBUS/AD0[4], 22 XTAL1, 23 XTAL2, 24 P0[28]/SCL0/USB_SCL, 25 P0[27]/SDA0/USB_SDA, 26 P3[26]/STCLK/MAT0[1]/PWM1[3], 27 P3[25]/MAT0[0]/PWM1[2], 28 54 71 96 VDD(3V3), 29 P0[29]/USB_D+, 30 P0[30]/USB_D-, 31 41 55 72 83 97 VSS, 32 P1[18]/USB_UP_LED/PWM1[1]/CAP1[0], 33 P1[19]/MCOA0/USB_PPWR/CAP1[1], 34 P1[20]/MCI0/PWM1[2]/SCK0, 35 P1[21]/MCABORT/PWM1[3]/SSEL0, 36 P1[22]/MCOB0/USB_PWRD/MAT1[0], 37 P1[23]/MCI1/PWM1[4]/MISO0, 38 P1[24]/MCI2/PWM1[5]/MOSI0, 39 P1[25]/MCOA1/MAT1[1], 40 P1[26]/MCOB1/PWM1[6]/CAP0[0], 42 84 VDD(REG)(3V3), 43 P1[27]/CLKOUT/USB_OVRCR/CAP0[1], 44 P1[28]/MCOA2/PCAP1[0]/MAT0[0], 45 P1[29]/MCOB2/PCAP1[1]/MAT0[1], 46 P0[0]/RD1/TXD3/SDA1, 47 P0[1]/TD1/RXD3/SCL1, 48 P0[10]/TXD2/SDA2/MAT3[0], 49 P0[11]/RXD2/SCL2/MAT3[1], 50 P2[13]/!EINT3!/I2STX_SDA, 51 P2[12]/!EINT2!/I2STX_WS, 52 P2[11]/!EINT1!/I2STX_CLK, 53 P2[10]/!EINT0!/NMI, 56 P0[22]/RTS1/TD1, 57 P0[21]/RI1/RD1, 58 P0[20]/DTR1/SCL1, 59 P0[19]/DSR1/SDA1, 60 P0[18]/DCD1/MOSI0/MOSI, 61 P0[17]/CTS1/MISO0/MISO, 62 P0[15]/TXD1/SCK0/SCK, 63 P0[16]/RXD1/SSEL0/SSEL, 64 P2[9]/USB_CONNECT/RXD2/ENET_MDIO, 65 P2[8]/TD2/TXD2/ENET_MDC, 66 P2[7]/RD2/RTS1, 67 P2[6]/PCAP1[0]/RI1/TRACECLK, 68 P2[5]/PWM1[6]/DTR1/TRACEDATA[0], 69 P2[4]/PWM1[5]/DSR1/TRACEDATA[1], 70 P2[3]/PWM1[4]/DCD1/TRACEDATA[2], 73 P2[2]/PWM1[3]/CTS1/TRACEDATA[3], 74 P2[1]/PWM1[2]/RXD1, 75 P2[0]/PWM1[1]/TXD1, 76 P0[9]/I2STX_SDA/MOSI1/MAT2[3], 77 P0[8]/I2STX_WS/MISO1/MAT2[2], 78 P0[7]/I2STX_CLK/SCK1/MAT2[1], 79 P0[6]/I2SRX_SDA/SSEL1/MAT2[0], 80 P0[5]/I2SRX_WS/TD2/CAP2[1], 81 P0[4]/I2SRX_CLK/RD2/CAP2[0], 82 P4[28]/RX_MCLK/MAT2[0]/TXD3, 85 P4[29]/TX_MCLK/MAT2[1]/RXD3, 86 P1[17]/ENET_MDIO, 87 P1[16]/ENET_MDC, 88 P1[15]/ENET_REF_CLK, 89 P1[14]/ENET_RX_ER, 90 P1[10]/ENET_RXD1, 91 P1[9]/ENET_RXD0, 92 P1[8]/ENET_CRS, 93 P1[4]/ENET_TX_EN, 94 P1[1]/ENET_TXD1, 95 P1[0]/ENET_TXD0, 98 P0[2]/TXD0/AD0[7], 99 P0[3]/RXD0/AD0[6], 100 RTCK

## LPC1810FBD144
designator U?, comment 32-bit ARM Cortex-M3 MCU; up to 200 kB SRAM; Ethernet, two High-speed USB, LCD, and external memory controller The LPC1850/30/20/10 are ARM Cortex-M3 based microcontrollers for embedded applications. The ARM Cortex-M3 is a next generation core that offers system enhancements such as low power consumption, enhanced debug features, and a high level of support block integration. The LPC1850/30/20/10 operate at CPU frequencies of up to 180 MHz. The ARM Cortex-M3 CPU incorporates a 3-stage pipeline and uses a Harvard architecture with separate local instruction and data buses as well as a third bus for peripherals. The ARM Cortex-M3 CPU also includes an internal prefetch unit that supports speculative branching. The LPC1850/30/20/10 include up to 200 kB of on-chip SRAM, a quad SPI Flash Interface (SPIFI), a State Configurable Timer (SCT) subsystem, two High-speed USB controllers, Ethernet, LCD, an external memory controller, and multiple digital and analog peripherals.    AAL Eindhoven MK
ADC: 8; ETHERNET: no; GPIO: 83; PWM: yes; SRAM: 136kB; LCD: no; QEI: no; USB0: No; USB1: No
footprint SOT486-1
pins: 1 P4_0, 2 ADC0_1/ADC1_1, 3 P4_1, 4 40 76 109 VSSIO, 5 36 41 71 77 107 111 141 VDDIO, 6 ADC0_0/ADC1_0/DAC, 7 P4_3, 8 P4_2, 9 P4_4, 10 P4_5, 11 P4_6, 12 XTAL1, 13 XTAL2, 14 P4_7, 15 P4_8, 16 USB0_VDDA3V3_DRIVER, 17 USB0_VDDA3V3, 18 USB0_DP, 19 USB0_VSSA_TERM, 20 USB0_DM, 21 USB0_VBUS, 22 USB0_ID, 23 USB0_VSSA_REF, 24 USB0_RREF, 25 59 94 131 VDDREG, 26 TDI, 27 TCK/SWDCLK, 28 DBGEN, 29 TRST, 30 TMS/SWDIO, 31 TDO/SWO, 32 P0_0, 33 P4_9, 34 P0_1, 35 P4_10, 37 P5_0, 38 P1_0, 39 P5_1, 42 P1_1, 43 P1_2, 44 P1_3, 45 CLK0, 46 P5_2, 47 P1_4, 48 P1_5, 49 P1_6, 50 P1_7, 51 P1_8, 52 P1_9, 53 P1_10, 54 P5_3, 55 P1_11, 56 P1_12, 57 P5_4, 58 P5_5, 60 P1_13, 61 P1_14, 62 P1_15, 63 P5_6, 64 P1_16, 65 P5_7, 66 P1_17, 67 P1_18, 68 P1_19, 69 P9_5, 70 P1_20, 72 P9_6, 73 P6_0, 74 P6_1, 75 P2_0, 78 P6_2, 79 P6_3, 80 P6_4, 81 P2_1, 82 P6_5, 83 P6_6, 84 P2_2, 85 P6_7, 86 P6_8, 87 P2_3, 88 P2_4, 89 USB1_DP, 90 USB1_DM, 91 P2_5, 92 I2C0_SCL, 93 I2C0_SDA, 95 P2_6, 96 P2_7, 97 P6_9, 98 P2_8, 99 CLK2, 100 P6_10, 101 P6_11, 102 P2_9, 103 P6_12, 104 P2_10, 105 P2_11, 106 P2_12, 108 P2_13, 110 P7_0, 112 P3_0, 113 P7_1, 114 P3_1, 115 P7_2, 116 P3_2, 117 P7_3, 118 P3_3, 119 P3_4, 120 PF_4, 121 P3_5, 122 P3_6, 123 P3_7, 124 P3_8, 125 RTCX1, 126 RTCX2, 127 VBAT, 128 RESET, 129 RTC_ALARM, 130 WAKEUP0, 132 P7_4, 133 P7_5, 134 P7_6, 135 VSSA, 136 ADC0_7/ADC1_7, 137 VDDA, 138 ADC0_4/ADC1_4, 139 ADC0_3/ADC1_3, 140 P7_7, 142 ADC0_6/ADC1_6, 143 ADC0_2/ADC1_2, 144 ADC0_5/ADC1_5

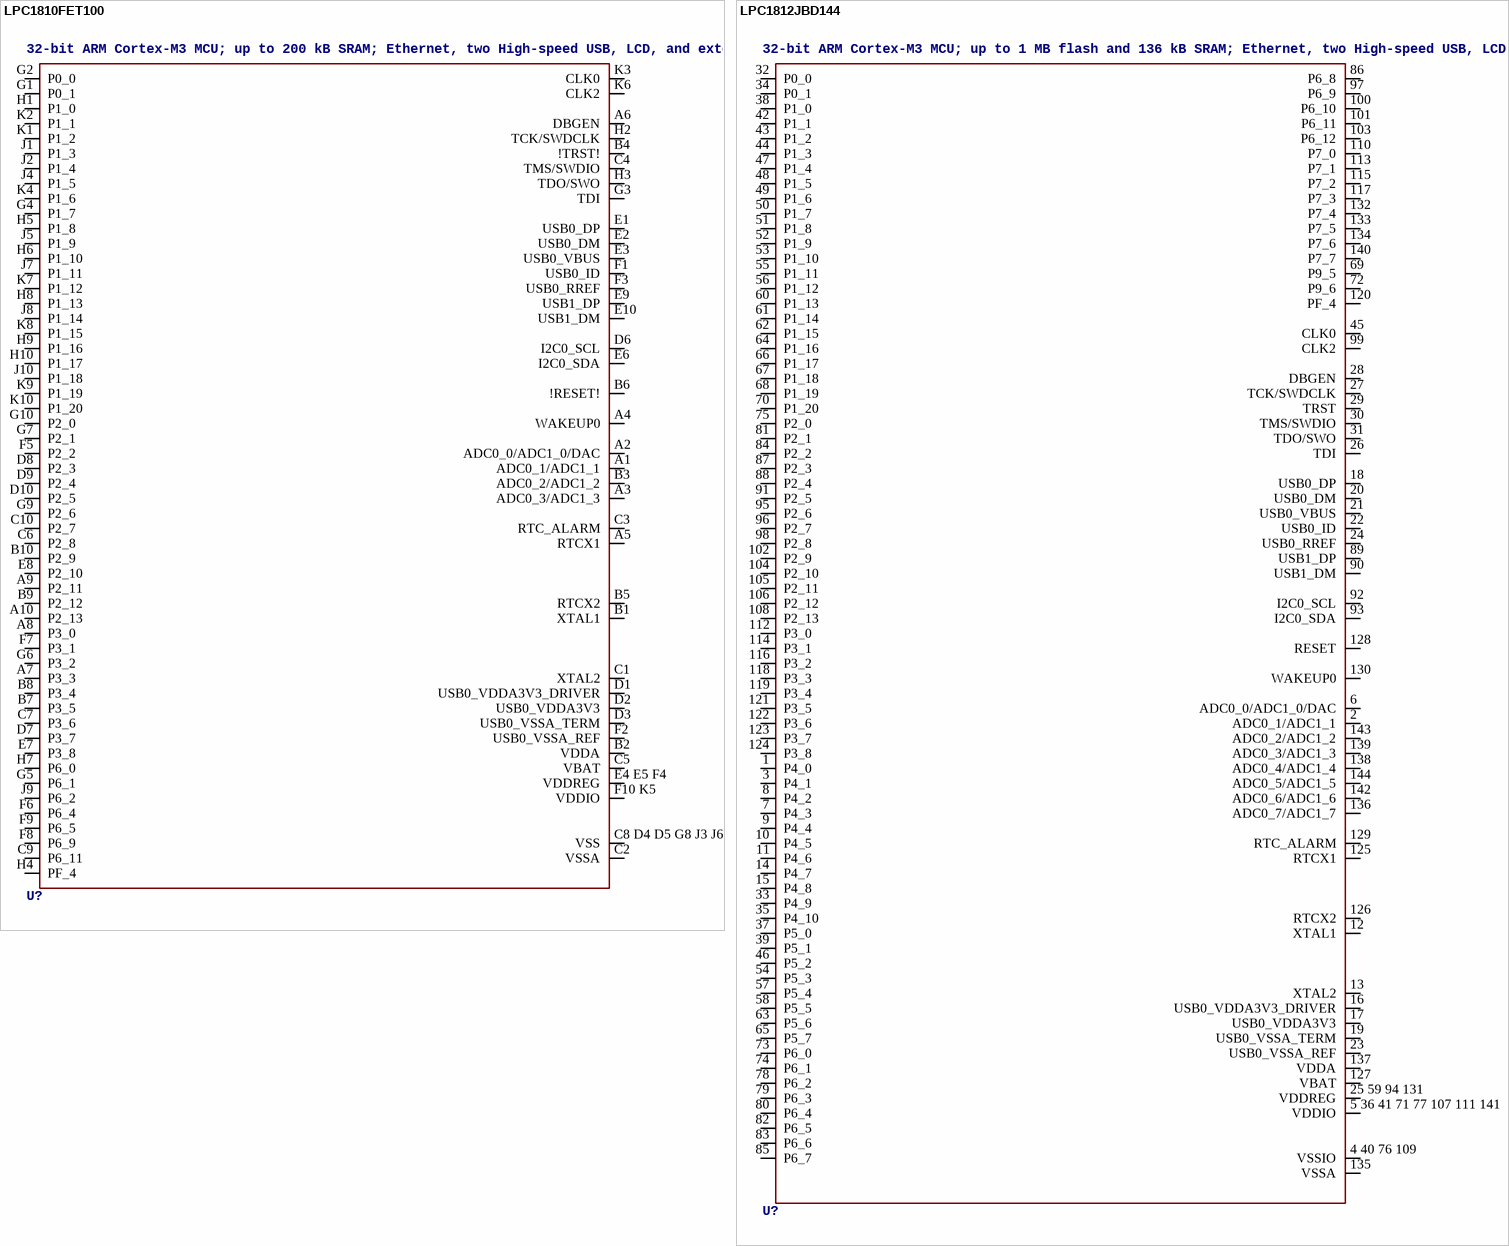
[diagram p86: symbols LPC1810FET100 to LPC1812JBD144]

## LPC1810FET100
designator U?, comment 32-bit ARM Cortex-M3 MCU; up to 200 kB SRAM; Ethernet, two High-speed USB, LCD, and external memory controller The LPC1850/30/20/10 are ARM Cortex-M3 based microcontrollers for embedded applications. The ARM Cortex-M3 is a next generation core that offers system enhancements such as low power consumption, enhanced debug features, and a high level of support block integration. The LPC1850/30/20/10 operate at CPU frequencies of up to 180 MHz. The ARM Cortex-M3 CPU incorporates a 3-stage pipeline and uses a Harvard architecture with separate local instruction and data buses as well as a third bus for peripherals. The ARM Cortex-M3 CPU also includes an internal prefetch unit that supports speculative branching. The LPC1850/30/20/10 include up to 200 kB of on-chip SRAM, a quad SPI Flash Interface (SPIFI), a State Configurable Timer (SCT) subsystem, two High-speed USB controllers, Ethernet, LCD, an external memory controller, and multiple digital and analog peripherals.    AAL Eindhoven MK
ADC: 4; ETHERNET: no; GPIO: 49; SRAM: 136kB; LCD: no; PWM: no; QEI: no; USB0: No; USB1: No
footprint SOT926-1
pins: A1 ADC0_1/ADC1_1, A2 ADC0_0/ADC1_0/DAC, A3 ADC0_3/ADC1_3, A4 WAKEUP0, A5 RTCX1, A6 DBGEN, A7 P3_3, A8 P3_0, A9 P2_11, A10 P2_13, B1 XTAL1, B2 VDDA, B3 ADC0_2/ADC1_2, B4 !TRST!, B5 RTCX2, B6 !RESET!, B7 P3_5, B8 P3_4, B9 P2_12, B10 P2_9, C1 XTAL2, C2 VSSA, C3 RTC_ALARM, C4 TMS/SWDIO, C5 VBAT, C6 P2_8, C7 P3_6, C8 D4 D5 G8 J3 J6 VSS, C9 P6_11, C10 P2_7, D1 USB0_VDDA3V3_DRIVER, D2 USB0_VDDA3V3, D3 USB0_VSSA_TERM, D6 I2C0_SCL, D7 P3_7, D8 P2_3, D9 P2_4, D10 P2_5, E1 USB0_DP, E2 USB0_DM, E3 USB0_VBUS, E4 E5 F4 VDDREG, E6 I2C0_SDA, E7 P3_8, E8 P2_10, E9 USB1_DP, E10 USB1_DM, F1 USB0_ID, F2 USB0_VSSA_REF, F3 USB0_RREF, F5 P2_2, F6 P6_4, F7 P3_1, F8 P6_9, F9 P6_5, F10 K5 VDDIO, G1 P0_1, G2 P0_0, G3 TDI, G4 P1_7, G5 P6_1, G6 P3_2, G7 P2_1, G9 P2_6, G10 P2_0, H1 P1_0, H2 TCK/SWDCLK, H3 TDO/SWO, H4 PF_4, H5 P1_8, H6 P1_10, H7 P6_0, H8 P1_13, H9 P1_16, H10 P1_17, J1 P1_3, J2 P1_4, J4 P1_5, J5 P1_9, J7 P1_11, J8 P1_14, J9 P6_2, J10 P1_18, K1 P1_2, K2 P1_1, K3 CLK0, K4 P1_6, K6 CLK2, K7 P1_12, K8 P1_15, K9 P1_19, K10 P1_20

## LPC1812JBD144
designator U?, comment 32-bit ARM Cortex-M3 MCU; up to 1 MB flash and 136 kB SRAM; Ethernet, two High-speed USB, LCD, EMC The LPC185x/3x/2x/1x are ARM Cortex-M3 based microcontrollers for embedded applications. The ARM Cortex-M3 is a next generation core that offers system enhancements such as low power consumption, enhanced debug features, and a high level of support block integration. The LPC185x/3x/2x/1x operate at CPU frequencies of up to 180 MHz. The ARM Cortex-M3 CPU incorporates a 3-stage pipeline and uses a Harvard architecture with separate local instruction and data buses as well as a third bus for peripherals. The ARM Cortex-M3 CPU also includes an internal prefetch unit that supports speculative branching. The LPC185x/3x/2x/1x include up to 1 MB of flash and 136 kB of on-chip SRAM, 16 kB of EEPROM memory, a quad SPI Flash Interface (SPIFI), a State Configurable Timer (SCT) subsystem, two High-speed USB controllers, Ethernet, LCD, an external memory controller, and multiple digital and analog peripherals.    AAL Eindhoven MK
ADC: 8; ETHERNET: no; FLASH: 512kB (1 bank); GPIO: 83; PWM: yes; SRAM: 104kB; TEMPERATURE_RANGE: -40 °C to +105 °C; LCD: no; QEI: no; USB0: No; USB1: No
footprint SOT486-1
pins: 1 P4_0, 2 ADC0_1/ADC1_1, 3 P4_1, 4 40 76 109 VSSIO, 5 36 41 71 77 107 111 141 VDDIO, 6 ADC0_0/ADC1_0/DAC, 7 P4_3, 8 P4_2, 9 P4_4, 10 P4_5, 11 P4_6, 12 XTAL1, 13 XTAL2, 14 P4_7, 15 P4_8, 16 USB0_VDDA3V3_DRIVER, 17 USB0_VDDA3V3, 18 USB0_DP, 19 USB0_VSSA_TERM, 20 USB0_DM, 21 USB0_VBUS, 22 USB0_ID, 23 USB0_VSSA_REF, 24 USB0_RREF, 25 59 94 131 VDDREG, 26 TDI, 27 TCK/SWDCLK, 28 DBGEN, 29 TRST, 30 TMS/SWDIO, 31 TDO/SWO, 32 P0_0, 33 P4_9, 34 P0_1, 35 P4_10, 37 P5_0, 38 P1_0, 39 P5_1, 42 P1_1, 43 P1_2, 44 P1_3, 45 CLK0, 46 P5_2, 47 P1_4, 48 P1_5, 49 P1_6, 50 P1_7, 51 P1_8, 52 P1_9, 53 P1_10, 54 P5_3, 55 P1_11, 56 P1_12, 57 P5_4, 58 P5_5, 60 P1_13, 61 P1_14, 62 P1_15, 63 P5_6, 64 P1_16, 65 P5_7, 66 P1_17, 67 P1_18, 68 P1_19, 69 P9_5, 70 P1_20, 72 P9_6, 73 P6_0, 74 P6_1, 75 P2_0, 78 P6_2, 79 P6_3, 80 P6_4, 81 P2_1, 82 P6_5, 83 P6_6, 84 P2_2, 85 P6_7, 86 P6_8, 87 P2_3, 88 P2_4, 89 USB1_DP, 90 USB1_DM, 91 P2_5, 92 I2C0_SCL, 93 I2C0_SDA, 95 P2_6, 96 P2_7, 97 P6_9, 98 P2_8, 99 CLK2, 100 P6_10, 101 P6_11, 102 P2_9, 103 P6_12, 104 P2_10, 105 P2_11, 106 P2_12, 108 P2_13, 110 P7_0, 112 P3_0, 113 P7_1, 114 P3_1, 115 P7_2, 116 P3_2, 117 P7_3, 118 P3_3, 119 P3_4, 120 PF_4, 121 P3_5, 122 P3_6, 123 P3_7, 124 P3_8, 125 RTCX1, 126 RTCX2, 127 VBAT, 128 RESET, 129 RTC_ALARM, 130 WAKEUP0, 132 P7_4, 133 P7_5, 134 P7_6, 135 VSSA, 136 ADC0_7/ADC1_7, 137 VDDA, 138 ADC0_4/ADC1_4, 139 ADC0_3/ADC1_3, 140 P7_7, 142 ADC0_6/ADC1_6, 143 ADC0_2/ADC1_2, 144 ADC0_5/ADC1_5

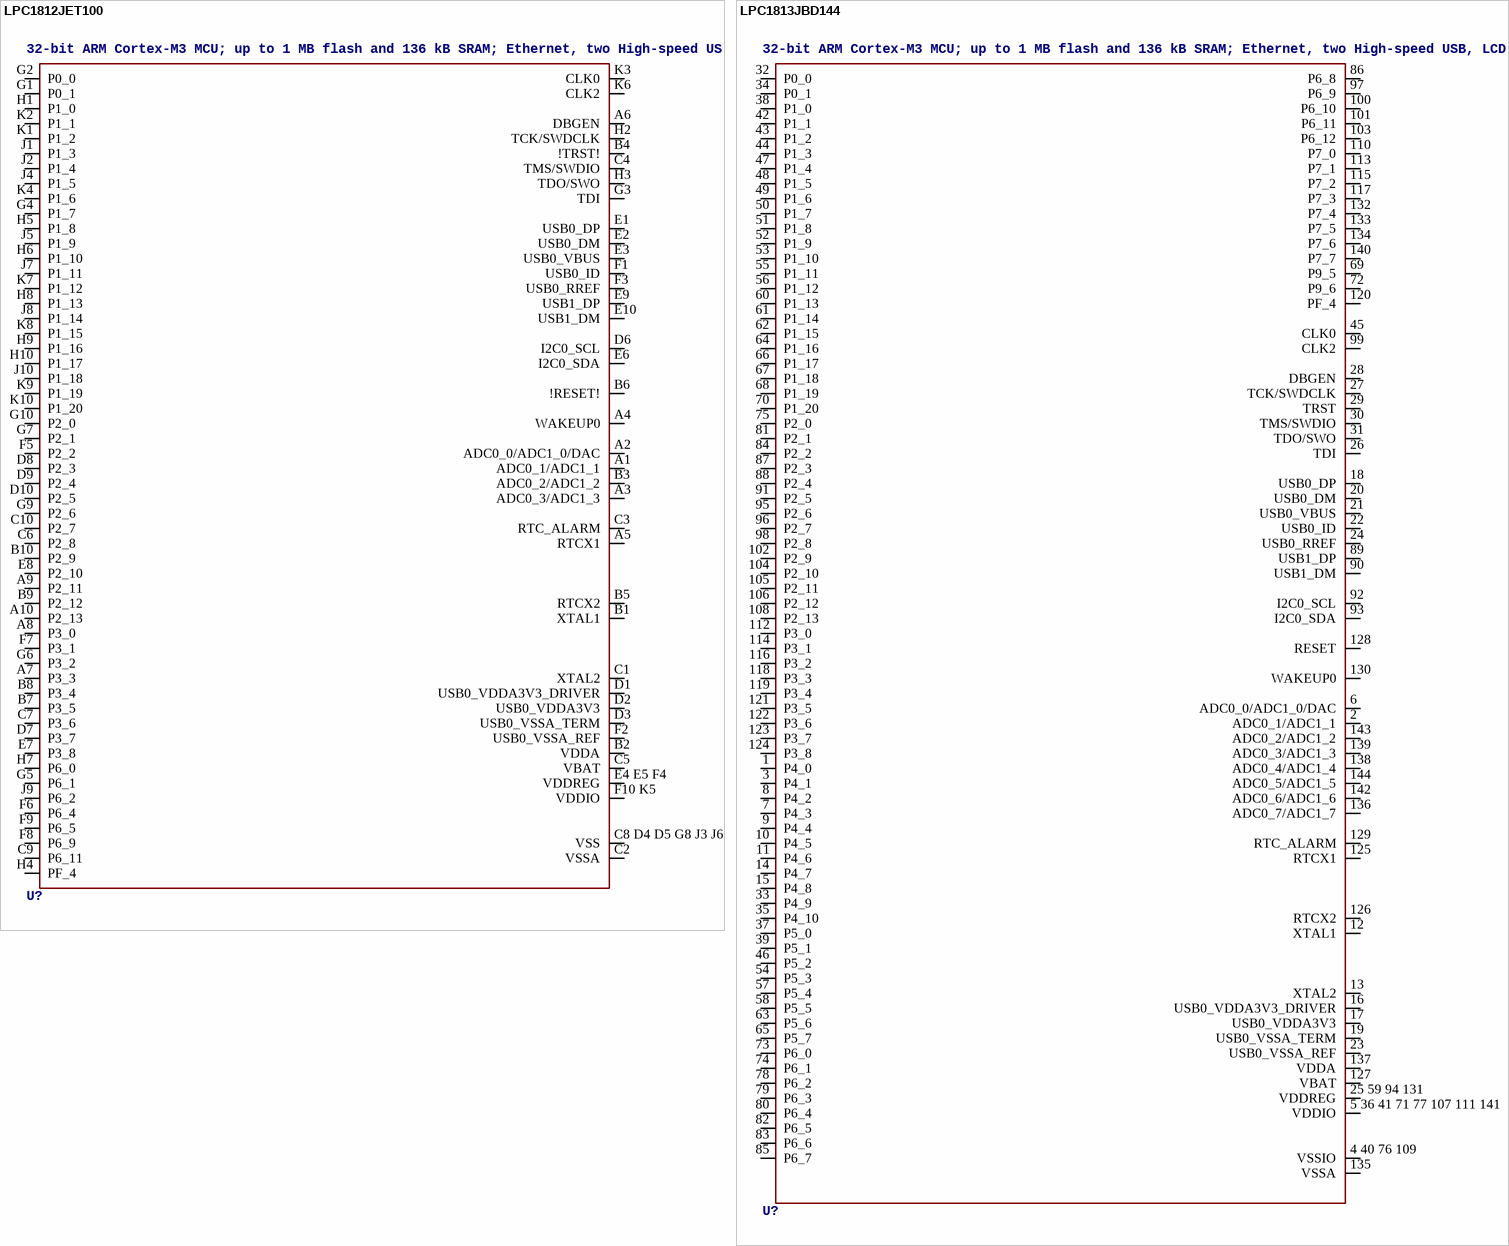
[diagram p87: symbols LPC1812JET100 to LPC1813JBD144]

## LPC1812JET100
designator U?, comment 32-bit ARM Cortex-M3 MCU; up to 1 MB flash and 136 kB SRAM; Ethernet, two High-speed USB, LCD, EMC The LPC185x/3x/2x/1x are ARM Cortex-M3 based microcontrollers for embedded applications. The ARM Cortex-M3 is a next generation core that offers system enhancements such as low power consumption, enhanced debug features, and a high level of support block integration. The LPC185x/3x/2x/1x operate at CPU frequencies of up to 180 MHz. The ARM Cortex-M3 CPU incorporates a 3-stage pipeline and uses a Harvard architecture with separate local instruction and data buses as well as a third bus for peripherals. The ARM Cortex-M3 CPU also includes an internal prefetch unit that supports speculative branching. The LPC185x/3x/2x/1x include up to 1 MB of flash and 136 kB of on-chip SRAM, 16 kB of EEPROM memory, a quad SPI Flash Interface (SPIFI), a State Configurable Timer (SCT) subsystem, two High-speed USB controllers, Ethernet, LCD, an external memory controller, and multiple digital and analog peripherals.    AAL Eindhoven MK
ADC: 4; ETHERNET: yes; FLASH: 512kB (1 bank); GPIO: 49; LCD: no; SRAM: 104kB; TEMPERATURE_RANGE: -40 °C to +105 °C; PWM: no; QEI: no; USB0: No; USB1: No
footprint SOT926-1
pins: A1 ADC0_1/ADC1_1, A2 ADC0_0/ADC1_0/DAC, A3 ADC0_3/ADC1_3, A4 WAKEUP0, A5 RTCX1, A6 DBGEN, A7 P3_3, A8 P3_0, A9 P2_11, A10 P2_13, B1 XTAL1, B2 VDDA, B3 ADC0_2/ADC1_2, B4 !TRST!, B5 RTCX2, B6 !RESET!, B7 P3_5, B8 P3_4, B9 P2_12, B10 P2_9, C1 XTAL2, C2 VSSA, C3 RTC_ALARM, C4 TMS/SWDIO, C5 VBAT, C6 P2_8, C7 P3_6, C8 D4 D5 G8 J3 J6 VSS, C9 P6_11, C10 P2_7, D1 USB0_VDDA3V3_DRIVER, D2 USB0_VDDA3V3, D3 USB0_VSSA_TERM, D6 I2C0_SCL, D7 P3_7, D8 P2_3, D9 P2_4, D10 P2_5, E1 USB0_DP, E2 USB0_DM, E3 USB0_VBUS, E4 E5 F4 VDDREG, E6 I2C0_SDA, E7 P3_8, E8 P2_10, E9 USB1_DP, E10 USB1_DM, F1 USB0_ID, F2 USB0_VSSA_REF, F3 USB0_RREF, F5 P2_2, F6 P6_4, F7 P3_1, F8 P6_9, F9 P6_5, F10 K5 VDDIO, G1 P0_1, G2 P0_0, G3 TDI, G4 P1_7, G5 P6_1, G6 P3_2, G7 P2_1, G9 P2_6, G10 P2_0, H1 P1_0, H2 TCK/SWDCLK, H3 TDO/SWO, H4 PF_4, H5 P1_8, H6 P1_10, H7 P6_0, H8 P1_13, H9 P1_16, H10 P1_17, J1 P1_3, J2 P1_4, J4 P1_5, J5 P1_9, J7 P1_11, J8 P1_14, J9 P6_2, J10 P1_18, K1 P1_2, K2 P1_1, K3 CLK0, K4 P1_6, K6 CLK2, K7 P1_12, K8 P1_15, K9 P1_19, K10 P1_20

## LPC1813JBD144
designator U?, comment 32-bit ARM Cortex-M3 MCU; up to 1 MB flash and 136 kB SRAM; Ethernet, two High-speed USB, LCD, EMC The LPC185x/3x/2x/1x are ARM Cortex-M3 based microcontrollers for embedded applications. The ARM Cortex-M3 is a next generation core that offers system enhancements such as low power consumption, enhanced debug features, and a high level of support block integration. The LPC185x/3x/2x/1x operate at CPU frequencies of up to 180 MHz. The ARM Cortex-M3 CPU incorporates a 3-stage pipeline and uses a Harvard architecture with separate local instruction and data buses as well as a third bus for peripherals. The ARM Cortex-M3 CPU also includes an internal prefetch unit that supports speculative branching. The LPC185x/3x/2x/1x include up to 1 MB of flash and 136 kB of on-chip SRAM, 16 kB of EEPROM memory, a quad SPI Flash Interface (SPIFI), a State Configurable Timer (SCT) subsystem, two High-speed USB controllers, Ethernet, LCD, an external memory controller, and multiple digital and analog peripherals.    AAL Eindhoven MK
ADC: 8; ETHERNET: no; FLASH: 512kB; GPIO: 83; PWM: yes; SRAM: 104kB; TEMPERATURE_RANGE: -40 °C to +105 °C; LCD: no; QEI: no; USB0: No; USB1: No
footprint SOT486-1
pins: 1 P4_0, 2 ADC0_1/ADC1_1, 3 P4_1, 4 40 76 109 VSSIO, 5 36 41 71 77 107 111 141 VDDIO, 6 ADC0_0/ADC1_0/DAC, 7 P4_3, 8 P4_2, 9 P4_4, 10 P4_5, 11 P4_6, 12 XTAL1, 13 XTAL2, 14 P4_7, 15 P4_8, 16 USB0_VDDA3V3_DRIVER, 17 USB0_VDDA3V3, 18 USB0_DP, 19 USB0_VSSA_TERM, 20 USB0_DM, 21 USB0_VBUS, 22 USB0_ID, 23 USB0_VSSA_REF, 24 USB0_RREF, 25 59 94 131 VDDREG, 26 TDI, 27 TCK/SWDCLK, 28 DBGEN, 29 TRST, 30 TMS/SWDIO, 31 TDO/SWO, 32 P0_0, 33 P4_9, 34 P0_1, 35 P4_10, 37 P5_0, 38 P1_0, 39 P5_1, 42 P1_1, 43 P1_2, 44 P1_3, 45 CLK0, 46 P5_2, 47 P1_4, 48 P1_5, 49 P1_6, 50 P1_7, 51 P1_8, 52 P1_9, 53 P1_10, 54 P5_3, 55 P1_11, 56 P1_12, 57 P5_4, 58 P5_5, 60 P1_13, 61 P1_14, 62 P1_15, 63 P5_6, 64 P1_16, 65 P5_7, 66 P1_17, 67 P1_18, 68 P1_19, 69 P9_5, 70 P1_20, 72 P9_6, 73 P6_0, 74 P6_1, 75 P2_0, 78 P6_2, 79 P6_3, 80 P6_4, 81 P2_1, 82 P6_5, 83 P6_6, 84 P2_2, 85 P6_7, 86 P6_8, 87 P2_3, 88 P2_4, 89 USB1_DP, 90 USB1_DM, 91 P2_5, 92 I2C0_SCL, 93 I2C0_SDA, 95 P2_6, 96 P2_7, 97 P6_9, 98 P2_8, 99 CLK2, 100 P6_10, 101 P6_11, 102 P2_9, 103 P6_12, 104 P2_10, 105 P2_11, 106 P2_12, 108 P2_13, 110 P7_0, 112 P3_0, 113 P7_1, 114 P3_1, 115 P7_2, 116 P3_2, 117 P7_3, 118 P3_3, 119 P3_4, 120 PF_4, 121 P3_5, 122 P3_6, 123 P3_7, 124 P3_8, 125 RTCX1, 126 RTCX2, 127 VBAT, 128 RESET, 129 RTC_ALARM, 130 WAKEUP0, 132 P7_4, 133 P7_5, 134 P7_6, 135 VSSA, 136 ADC0_7/ADC1_7, 137 VDDA, 138 ADC0_4/ADC1_4, 139 ADC0_3/ADC1_3, 140 P7_7, 142 ADC0_6/ADC1_6, 143 ADC0_2/ADC1_2, 144 ADC0_5/ADC1_5

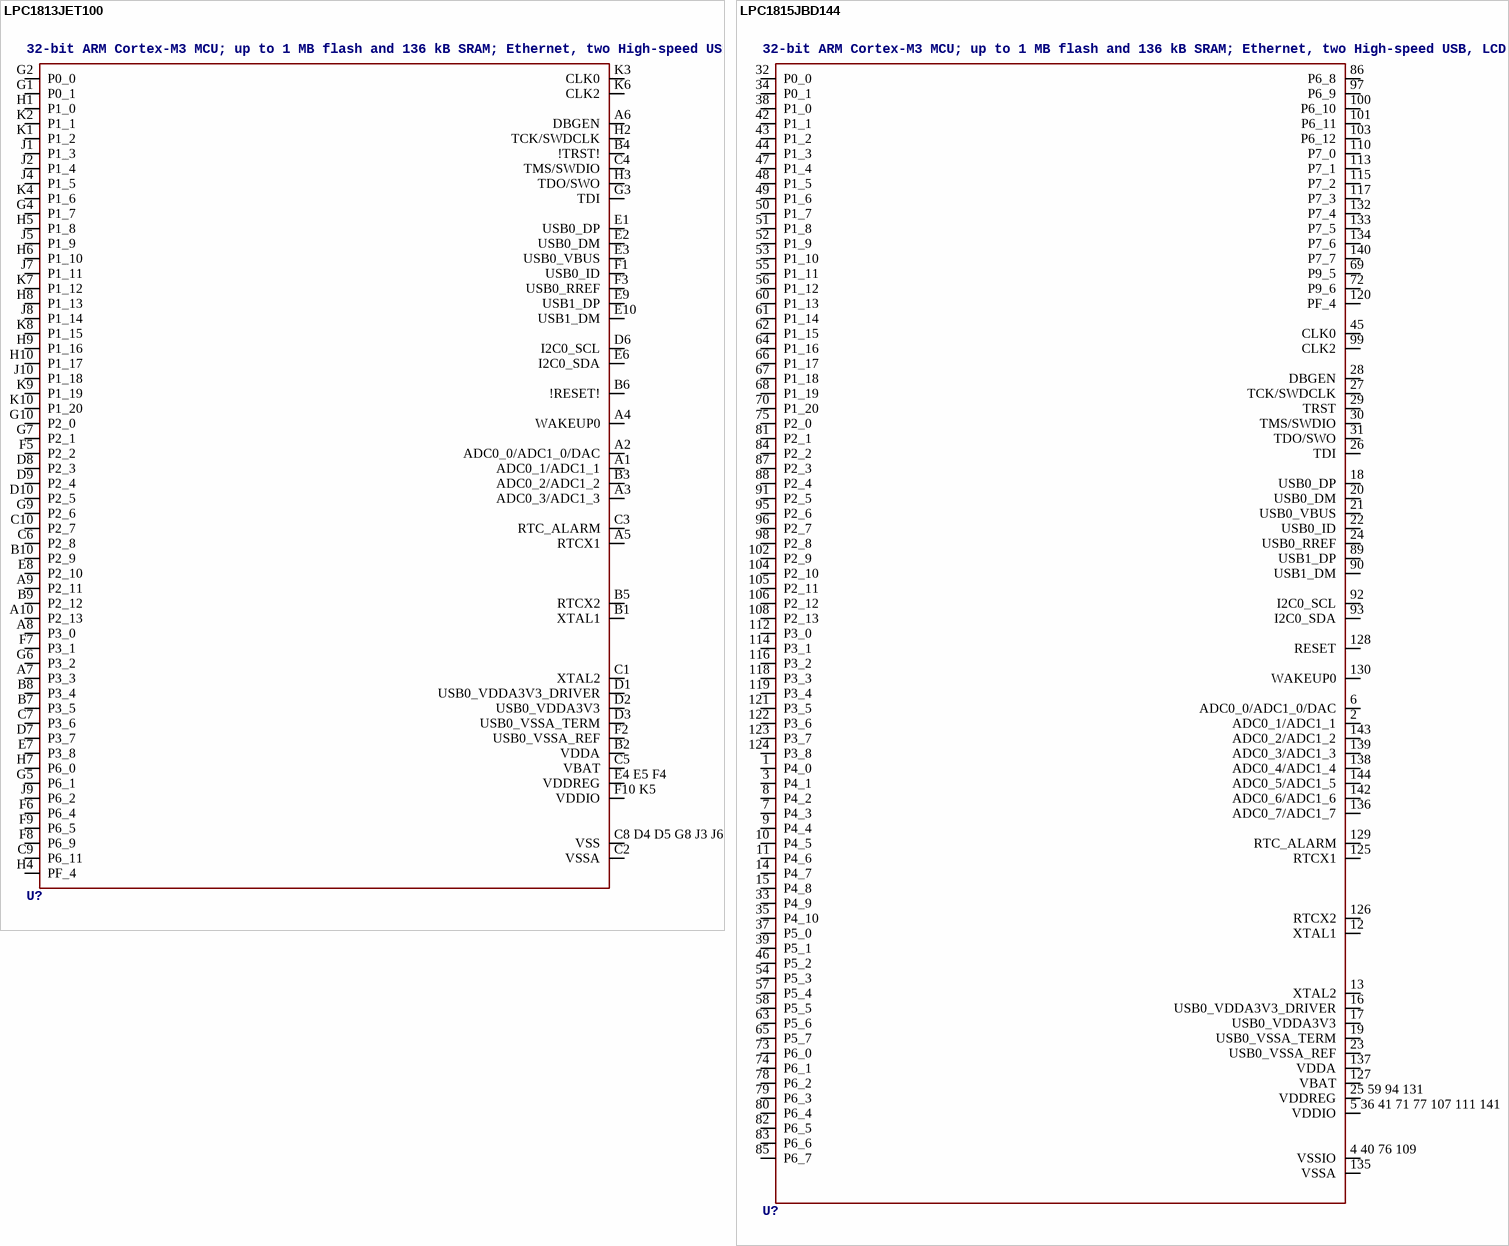
[diagram p88: symbols LPC1813JET100 to LPC1815JBD144]

## LPC1813JET100
designator U?, comment 32-bit ARM Cortex-M3 MCU; up to 1 MB flash and 136 kB SRAM; Ethernet, two High-speed USB, LCD, EMC The LPC185x/3x/2x/1x are ARM Cortex-M3 based microcontrollers for embedded applications. The ARM Cortex-M3 is a next generation core that offers system enhancements such as low power consumption, enhanced debug features, and a high level of support block integration. The LPC185x/3x/2x/1x operate at CPU frequencies of up to 180 MHz. The ARM Cortex-M3 CPU incorporates a 3-stage pipeline and uses a Harvard architecture with separate local instruction and data buses as well as a third bus for peripherals. The ARM Cortex-M3 CPU also includes an internal prefetch unit that supports speculative branching. The LPC185x/3x/2x/1x include up to 1 MB of flash and 136 kB of on-chip SRAM, 16 kB of EEPROM memory, a quad SPI Flash Interface (SPIFI), a State Configurable Timer (SCT) subsystem, two High-speed USB controllers, Ethernet, LCD, an external memory controller, and multiple digital and analog peripherals.    AAL Eindhoven MK
ADC: 4; ETHERNET: yes; FLASH: 512kB; GPIO: 49; LCD: no; SRAM: 104kB; TEMPERATURE_RANGE: -40 °C to +105 °C; PWM: no; QEI: no; USB0: No; USB1: No
footprint SOT926-1
pins: A1 ADC0_1/ADC1_1, A2 ADC0_0/ADC1_0/DAC, A3 ADC0_3/ADC1_3, A4 WAKEUP0, A5 RTCX1, A6 DBGEN, A7 P3_3, A8 P3_0, A9 P2_11, A10 P2_13, B1 XTAL1, B2 VDDA, B3 ADC0_2/ADC1_2, B4 !TRST!, B5 RTCX2, B6 !RESET!, B7 P3_5, B8 P3_4, B9 P2_12, B10 P2_9, C1 XTAL2, C2 VSSA, C3 RTC_ALARM, C4 TMS/SWDIO, C5 VBAT, C6 P2_8, C7 P3_6, C8 D4 D5 G8 J3 J6 VSS, C9 P6_11, C10 P2_7, D1 USB0_VDDA3V3_DRIVER, D2 USB0_VDDA3V3, D3 USB0_VSSA_TERM, D6 I2C0_SCL, D7 P3_7, D8 P2_3, D9 P2_4, D10 P2_5, E1 USB0_DP, E2 USB0_DM, E3 USB0_VBUS, E4 E5 F4 VDDREG, E6 I2C0_SDA, E7 P3_8, E8 P2_10, E9 USB1_DP, E10 USB1_DM, F1 USB0_ID, F2 USB0_VSSA_REF, F3 USB0_RREF, F5 P2_2, F6 P6_4, F7 P3_1, F8 P6_9, F9 P6_5, F10 K5 VDDIO, G1 P0_1, G2 P0_0, G3 TDI, G4 P1_7, G5 P6_1, G6 P3_2, G7 P2_1, G9 P2_6, G10 P2_0, H1 P1_0, H2 TCK/SWDCLK, H3 TDO/SWO, H4 PF_4, H5 P1_8, H6 P1_10, H7 P6_0, H8 P1_13, H9 P1_16, H10 P1_17, J1 P1_3, J2 P1_4, J4 P1_5, J5 P1_9, J7 P1_11, J8 P1_14, J9 P6_2, J10 P1_18, K1 P1_2, K2 P1_1, K3 CLK0, K4 P1_6, K6 CLK2, K7 P1_12, K8 P1_15, K9 P1_19, K10 P1_20

## LPC1815JBD144
designator U?, comment 32-bit ARM Cortex-M3 MCU; up to 1 MB flash and 136 kB SRAM; Ethernet, two High-speed USB, LCD, EMC The LPC185x/3x/2x/1x are ARM Cortex-M3 based microcontrollers for embedded applications. The ARM Cortex-M3 is a next generation core that offers system enhancements such as low power consumption, enhanced debug features, and a high level of support block integration. The LPC185x/3x/2x/1x operate at CPU frequencies of up to 180 MHz. The ARM Cortex-M3 CPU incorporates a 3-stage pipeline and uses a Harvard architecture with separate local instruction and data buses as well as a third bus for peripherals. The ARM Cortex-M3 CPU also includes an internal prefetch unit that supports speculative branching. The LPC185x/3x/2x/1x include up to 1 MB of flash and 136 kB of on-chip SRAM, 16 kB of EEPROM memory, a quad SPI Flash Interface (SPIFI), a State Configurable Timer (SCT) subsystem, two High-speed USB controllers, Ethernet, LCD, an external memory controller, and multiple digital and analog peripherals.    AAL Eindhoven MK
ADC: 8; ETHERNET: no; FLASH: 768kB; GPIO: 83; PWM: yes; SRAM: 136kB; TEMPERATURE_RANGE: -40 °C to +105 °C; LCD: no; QEI: no; USB0: No; USB1: No
footprint SOT486-1
pins: 1 P4_0, 2 ADC0_1/ADC1_1, 3 P4_1, 4 40 76 109 VSSIO, 5 36 41 71 77 107 111 141 VDDIO, 6 ADC0_0/ADC1_0/DAC, 7 P4_3, 8 P4_2, 9 P4_4, 10 P4_5, 11 P4_6, 12 XTAL1, 13 XTAL2, 14 P4_7, 15 P4_8, 16 USB0_VDDA3V3_DRIVER, 17 USB0_VDDA3V3, 18 USB0_DP, 19 USB0_VSSA_TERM, 20 USB0_DM, 21 USB0_VBUS, 22 USB0_ID, 23 USB0_VSSA_REF, 24 USB0_RREF, 25 59 94 131 VDDREG, 26 TDI, 27 TCK/SWDCLK, 28 DBGEN, 29 TRST, 30 TMS/SWDIO, 31 TDO/SWO, 32 P0_0, 33 P4_9, 34 P0_1, 35 P4_10, 37 P5_0, 38 P1_0, 39 P5_1, 42 P1_1, 43 P1_2, 44 P1_3, 45 CLK0, 46 P5_2, 47 P1_4, 48 P1_5, 49 P1_6, 50 P1_7, 51 P1_8, 52 P1_9, 53 P1_10, 54 P5_3, 55 P1_11, 56 P1_12, 57 P5_4, 58 P5_5, 60 P1_13, 61 P1_14, 62 P1_15, 63 P5_6, 64 P1_16, 65 P5_7, 66 P1_17, 67 P1_18, 68 P1_19, 69 P9_5, 70 P1_20, 72 P9_6, 73 P6_0, 74 P6_1, 75 P2_0, 78 P6_2, 79 P6_3, 80 P6_4, 81 P2_1, 82 P6_5, 83 P6_6, 84 P2_2, 85 P6_7, 86 P6_8, 87 P2_3, 88 P2_4, 89 USB1_DP, 90 USB1_DM, 91 P2_5, 92 I2C0_SCL, 93 I2C0_SDA, 95 P2_6, 96 P2_7, 97 P6_9, 98 P2_8, 99 CLK2, 100 P6_10, 101 P6_11, 102 P2_9, 103 P6_12, 104 P2_10, 105 P2_11, 106 P2_12, 108 P2_13, 110 P7_0, 112 P3_0, 113 P7_1, 114 P3_1, 115 P7_2, 116 P3_2, 117 P7_3, 118 P3_3, 119 P3_4, 120 PF_4, 121 P3_5, 122 P3_6, 123 P3_7, 124 P3_8, 125 RTCX1, 126 RTCX2, 127 VBAT, 128 RESET, 129 RTC_ALARM, 130 WAKEUP0, 132 P7_4, 133 P7_5, 134 P7_6, 135 VSSA, 136 ADC0_7/ADC1_7, 137 VDDA, 138 ADC0_4/ADC1_4, 139 ADC0_3/ADC1_3, 140 P7_7, 142 ADC0_6/ADC1_6, 143 ADC0_2/ADC1_2, 144 ADC0_5/ADC1_5

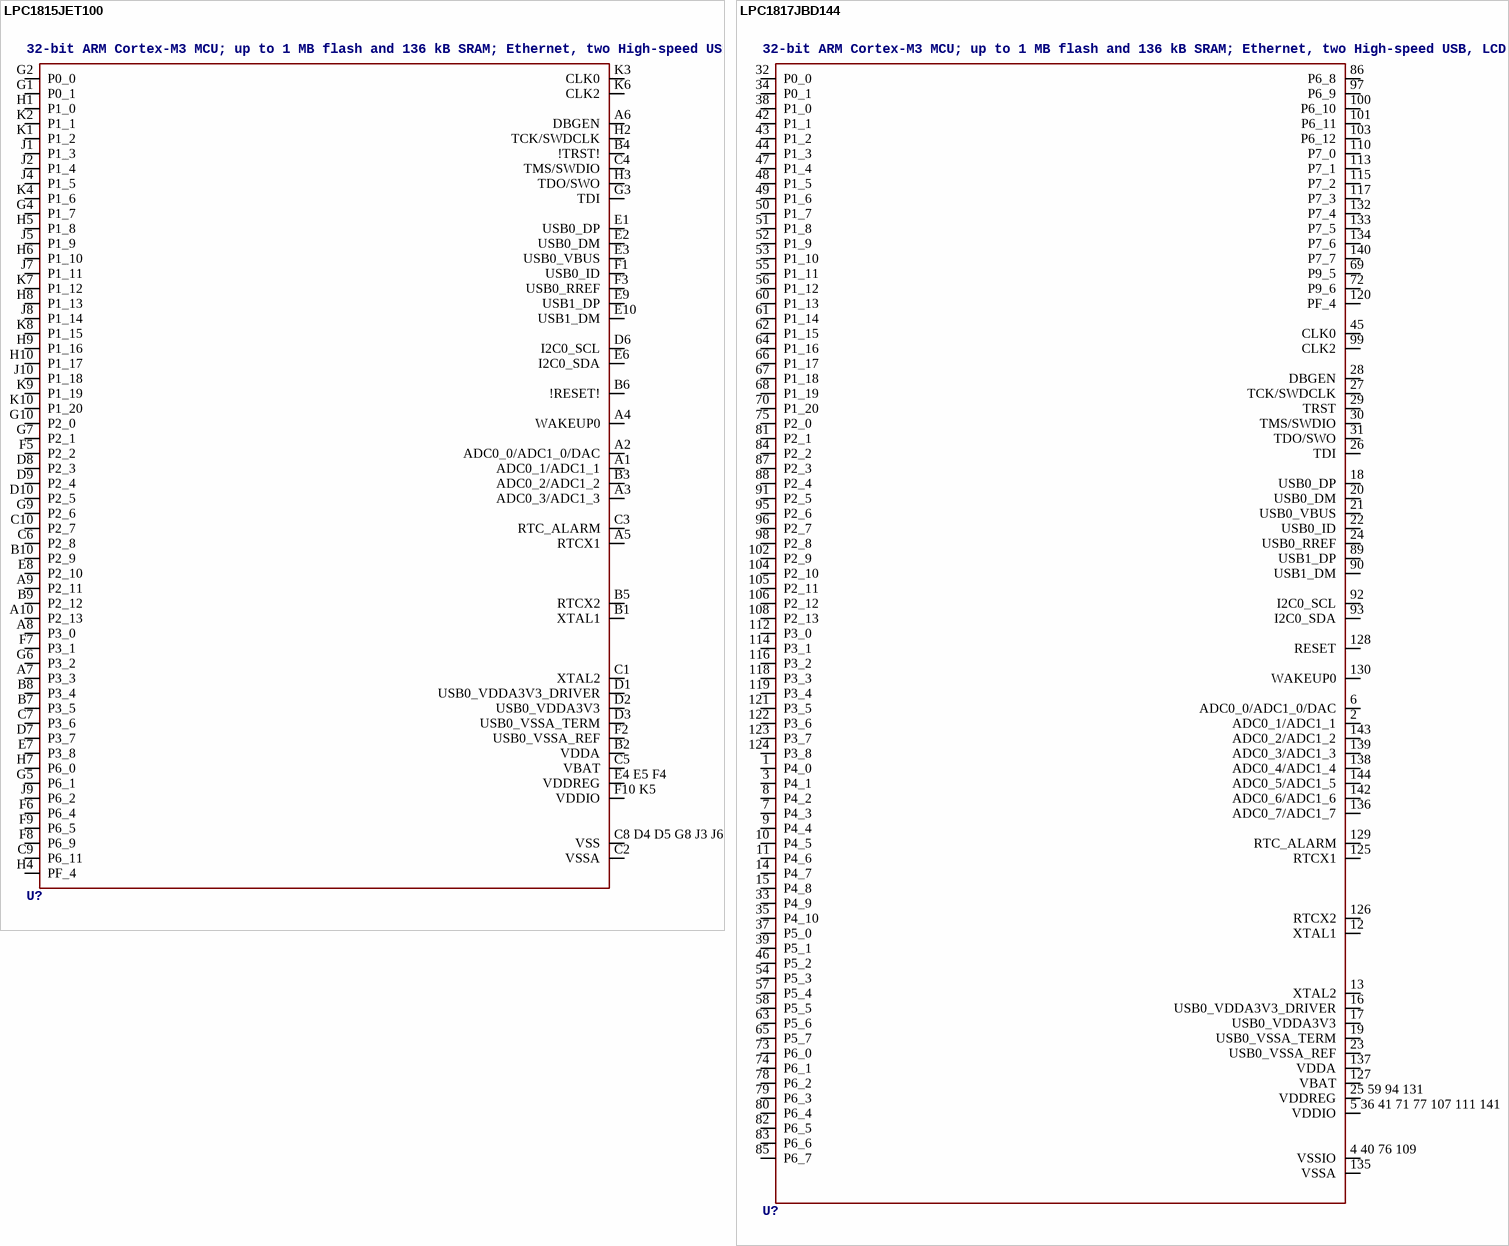
[diagram p89: symbols LPC1815JET100 to LPC1817JBD144]

## LPC1815JET100
designator U?, comment 32-bit ARM Cortex-M3 MCU; up to 1 MB flash and 136 kB SRAM; Ethernet, two High-speed USB, LCD, EMC The LPC185x/3x/2x/1x are ARM Cortex-M3 based microcontrollers for embedded applications. The ARM Cortex-M3 is a next generation core that offers system enhancements such as low power consumption, enhanced debug features, and a high level of support block integration. The LPC185x/3x/2x/1x operate at CPU frequencies of up to 180 MHz. The ARM Cortex-M3 CPU incorporates a 3-stage pipeline and uses a Harvard architecture with separate local instruction and data buses as well as a third bus for peripherals. The ARM Cortex-M3 CPU also includes an internal prefetch unit that supports speculative branching. The LPC185x/3x/2x/1x include up to 1 MB of flash and 136 kB of on-chip SRAM, 16 kB of EEPROM memory, a quad SPI Flash Interface (SPIFI), a State Configurable Timer (SCT) subsystem, two High-speed USB controllers, Ethernet, LCD, an external memory controller, and multiple digital and analog peripherals.    AAL Eindhoven MK
ADC: 4; ETHERNET: yes; FLASH: 768kB; GPIO: 49; LCD: no; SRAM: 136kB; TEMPERATURE_RANGE: -40 °C to +105 °C; PWM: no; QEI: no; USB0: No; USB1: No
footprint SOT926-1
pins: A1 ADC0_1/ADC1_1, A2 ADC0_0/ADC1_0/DAC, A3 ADC0_3/ADC1_3, A4 WAKEUP0, A5 RTCX1, A6 DBGEN, A7 P3_3, A8 P3_0, A9 P2_11, A10 P2_13, B1 XTAL1, B2 VDDA, B3 ADC0_2/ADC1_2, B4 !TRST!, B5 RTCX2, B6 !RESET!, B7 P3_5, B8 P3_4, B9 P2_12, B10 P2_9, C1 XTAL2, C2 VSSA, C3 RTC_ALARM, C4 TMS/SWDIO, C5 VBAT, C6 P2_8, C7 P3_6, C8 D4 D5 G8 J3 J6 VSS, C9 P6_11, C10 P2_7, D1 USB0_VDDA3V3_DRIVER, D2 USB0_VDDA3V3, D3 USB0_VSSA_TERM, D6 I2C0_SCL, D7 P3_7, D8 P2_3, D9 P2_4, D10 P2_5, E1 USB0_DP, E2 USB0_DM, E3 USB0_VBUS, E4 E5 F4 VDDREG, E6 I2C0_SDA, E7 P3_8, E8 P2_10, E9 USB1_DP, E10 USB1_DM, F1 USB0_ID, F2 USB0_VSSA_REF, F3 USB0_RREF, F5 P2_2, F6 P6_4, F7 P3_1, F8 P6_9, F9 P6_5, F10 K5 VDDIO, G1 P0_1, G2 P0_0, G3 TDI, G4 P1_7, G5 P6_1, G6 P3_2, G7 P2_1, G9 P2_6, G10 P2_0, H1 P1_0, H2 TCK/SWDCLK, H3 TDO/SWO, H4 PF_4, H5 P1_8, H6 P1_10, H7 P6_0, H8 P1_13, H9 P1_16, H10 P1_17, J1 P1_3, J2 P1_4, J4 P1_5, J5 P1_9, J7 P1_11, J8 P1_14, J9 P6_2, J10 P1_18, K1 P1_2, K2 P1_1, K3 CLK0, K4 P1_6, K6 CLK2, K7 P1_12, K8 P1_15, K9 P1_19, K10 P1_20

## LPC1817JBD144
designator U?, comment 32-bit ARM Cortex-M3 MCU; up to 1 MB flash and 136 kB SRAM; Ethernet, two High-speed USB, LCD, EMC The LPC185x/3x/2x/1x are ARM Cortex-M3 based microcontrollers for embedded applications. The ARM Cortex-M3 is a next generation core that offers system enhancements such as low power consumption, enhanced debug features, and a high level of support block integration. The LPC185x/3x/2x/1x operate at CPU frequencies of up to 180 MHz. The ARM Cortex-M3 CPU incorporates a 3-stage pipeline and uses a Harvard architecture with separate local instruction and data buses as well as a third bus for peripherals. The ARM Cortex-M3 CPU also includes an internal prefetch unit that supports speculative branching. The LPC185x/3x/2x/1x include up to 1 MB of flash and 136 kB of on-chip SRAM, 16 kB of EEPROM memory, a quad SPI Flash Interface (SPIFI), a State Configurable Timer (SCT) subsystem, two High-speed USB controllers, Ethernet, LCD, an external memory controller, and multiple digital and analog peripherals.    AAL Eindhoven MK
ADC: 8; ETHERNET: no; FLASH: 1MB; GPIO: 83; PWM: yes; SRAM: 136kB; TEMPERATURE_RANGE: -40 °C to +105 °C; LCD: no; QEI: no; USB0: No; USB1: No
footprint SOT486-1
pins: 1 P4_0, 2 ADC0_1/ADC1_1, 3 P4_1, 4 40 76 109 VSSIO, 5 36 41 71 77 107 111 141 VDDIO, 6 ADC0_0/ADC1_0/DAC, 7 P4_3, 8 P4_2, 9 P4_4, 10 P4_5, 11 P4_6, 12 XTAL1, 13 XTAL2, 14 P4_7, 15 P4_8, 16 USB0_VDDA3V3_DRIVER, 17 USB0_VDDA3V3, 18 USB0_DP, 19 USB0_VSSA_TERM, 20 USB0_DM, 21 USB0_VBUS, 22 USB0_ID, 23 USB0_VSSA_REF, 24 USB0_RREF, 25 59 94 131 VDDREG, 26 TDI, 27 TCK/SWDCLK, 28 DBGEN, 29 TRST, 30 TMS/SWDIO, 31 TDO/SWO, 32 P0_0, 33 P4_9, 34 P0_1, 35 P4_10, 37 P5_0, 38 P1_0, 39 P5_1, 42 P1_1, 43 P1_2, 44 P1_3, 45 CLK0, 46 P5_2, 47 P1_4, 48 P1_5, 49 P1_6, 50 P1_7, 51 P1_8, 52 P1_9, 53 P1_10, 54 P5_3, 55 P1_11, 56 P1_12, 57 P5_4, 58 P5_5, 60 P1_13, 61 P1_14, 62 P1_15, 63 P5_6, 64 P1_16, 65 P5_7, 66 P1_17, 67 P1_18, 68 P1_19, 69 P9_5, 70 P1_20, 72 P9_6, 73 P6_0, 74 P6_1, 75 P2_0, 78 P6_2, 79 P6_3, 80 P6_4, 81 P2_1, 82 P6_5, 83 P6_6, 84 P2_2, 85 P6_7, 86 P6_8, 87 P2_3, 88 P2_4, 89 USB1_DP, 90 USB1_DM, 91 P2_5, 92 I2C0_SCL, 93 I2C0_SDA, 95 P2_6, 96 P2_7, 97 P6_9, 98 P2_8, 99 CLK2, 100 P6_10, 101 P6_11, 102 P2_9, 103 P6_12, 104 P2_10, 105 P2_11, 106 P2_12, 108 P2_13, 110 P7_0, 112 P3_0, 113 P7_1, 114 P3_1, 115 P7_2, 116 P3_2, 117 P7_3, 118 P3_3, 119 P3_4, 120 PF_4, 121 P3_5, 122 P3_6, 123 P3_7, 124 P3_8, 125 RTCX1, 126 RTCX2, 127 VBAT, 128 RESET, 129 RTC_ALARM, 130 WAKEUP0, 132 P7_4, 133 P7_5, 134 P7_6, 135 VSSA, 136 ADC0_7/ADC1_7, 137 VDDA, 138 ADC0_4/ADC1_4, 139 ADC0_3/ADC1_3, 140 P7_7, 142 ADC0_6/ADC1_6, 143 ADC0_2/ADC1_2, 144 ADC0_5/ADC1_5

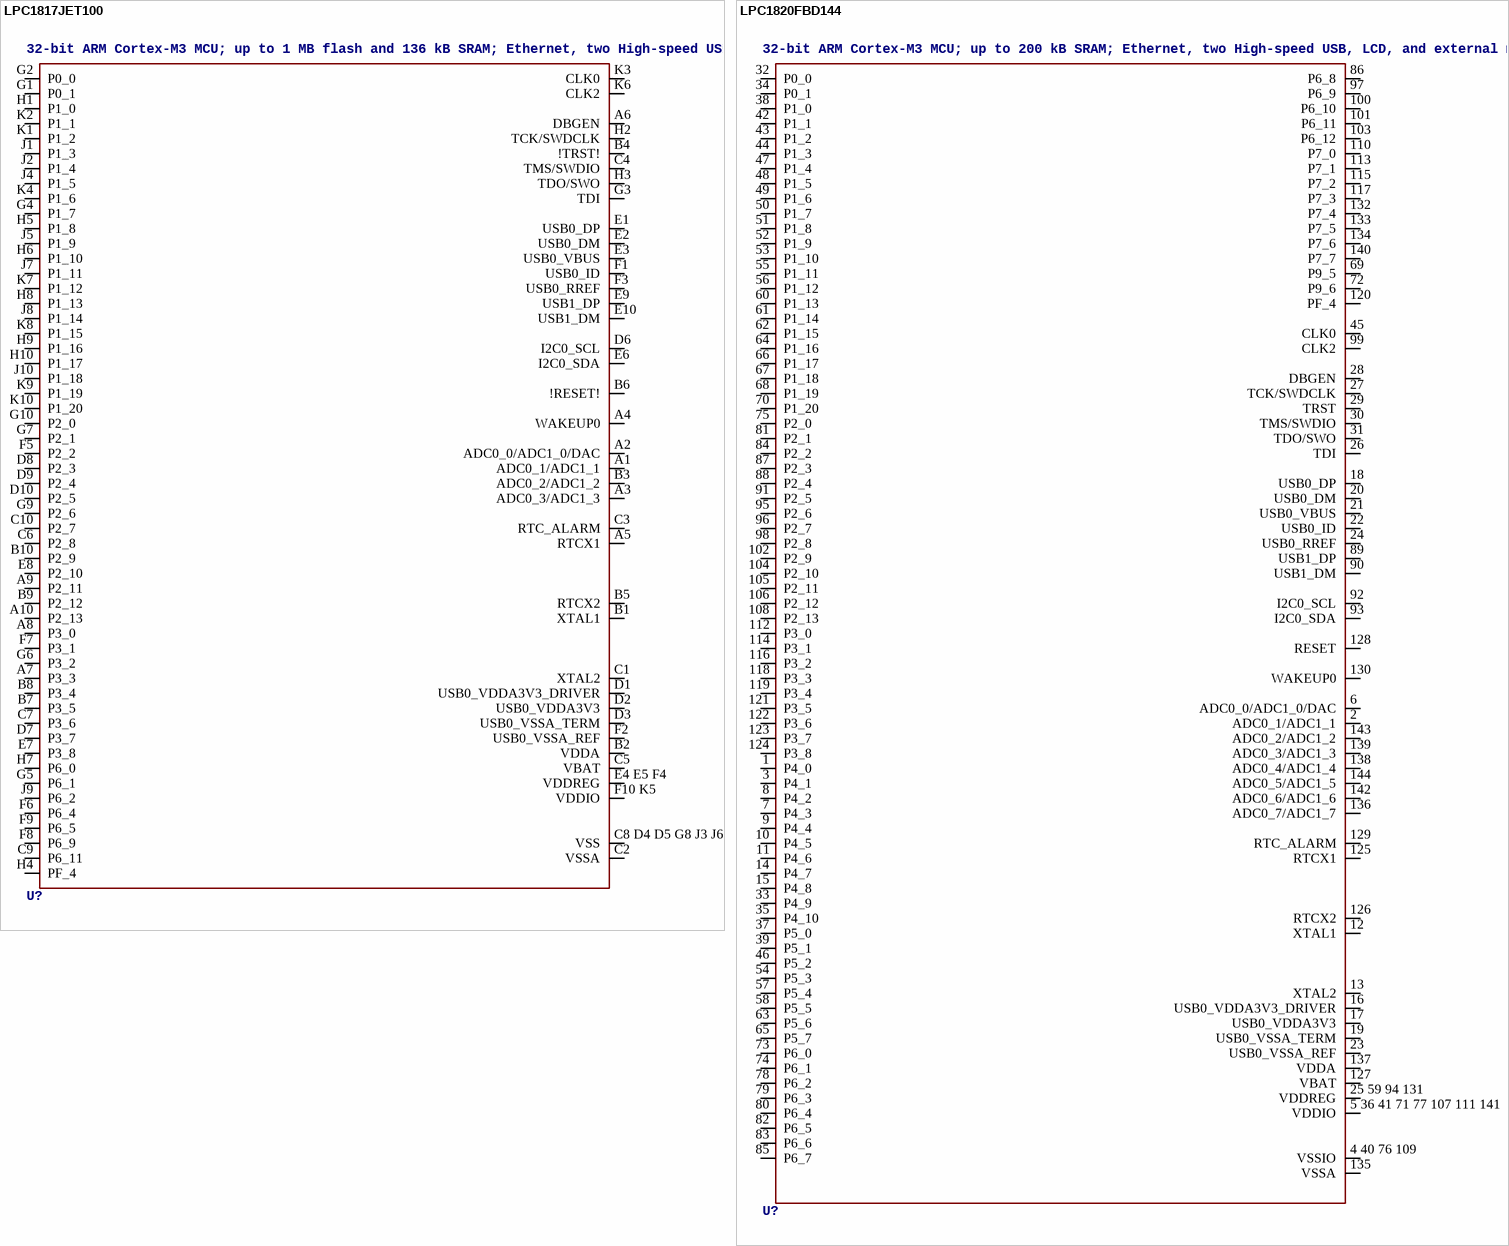
[diagram p90: symbols LPC1817JET100 to LPC1820FBD144]